# Altium schematic symbol library Analog_ADC.SchLib: 173 symbols (part 2 of 3)
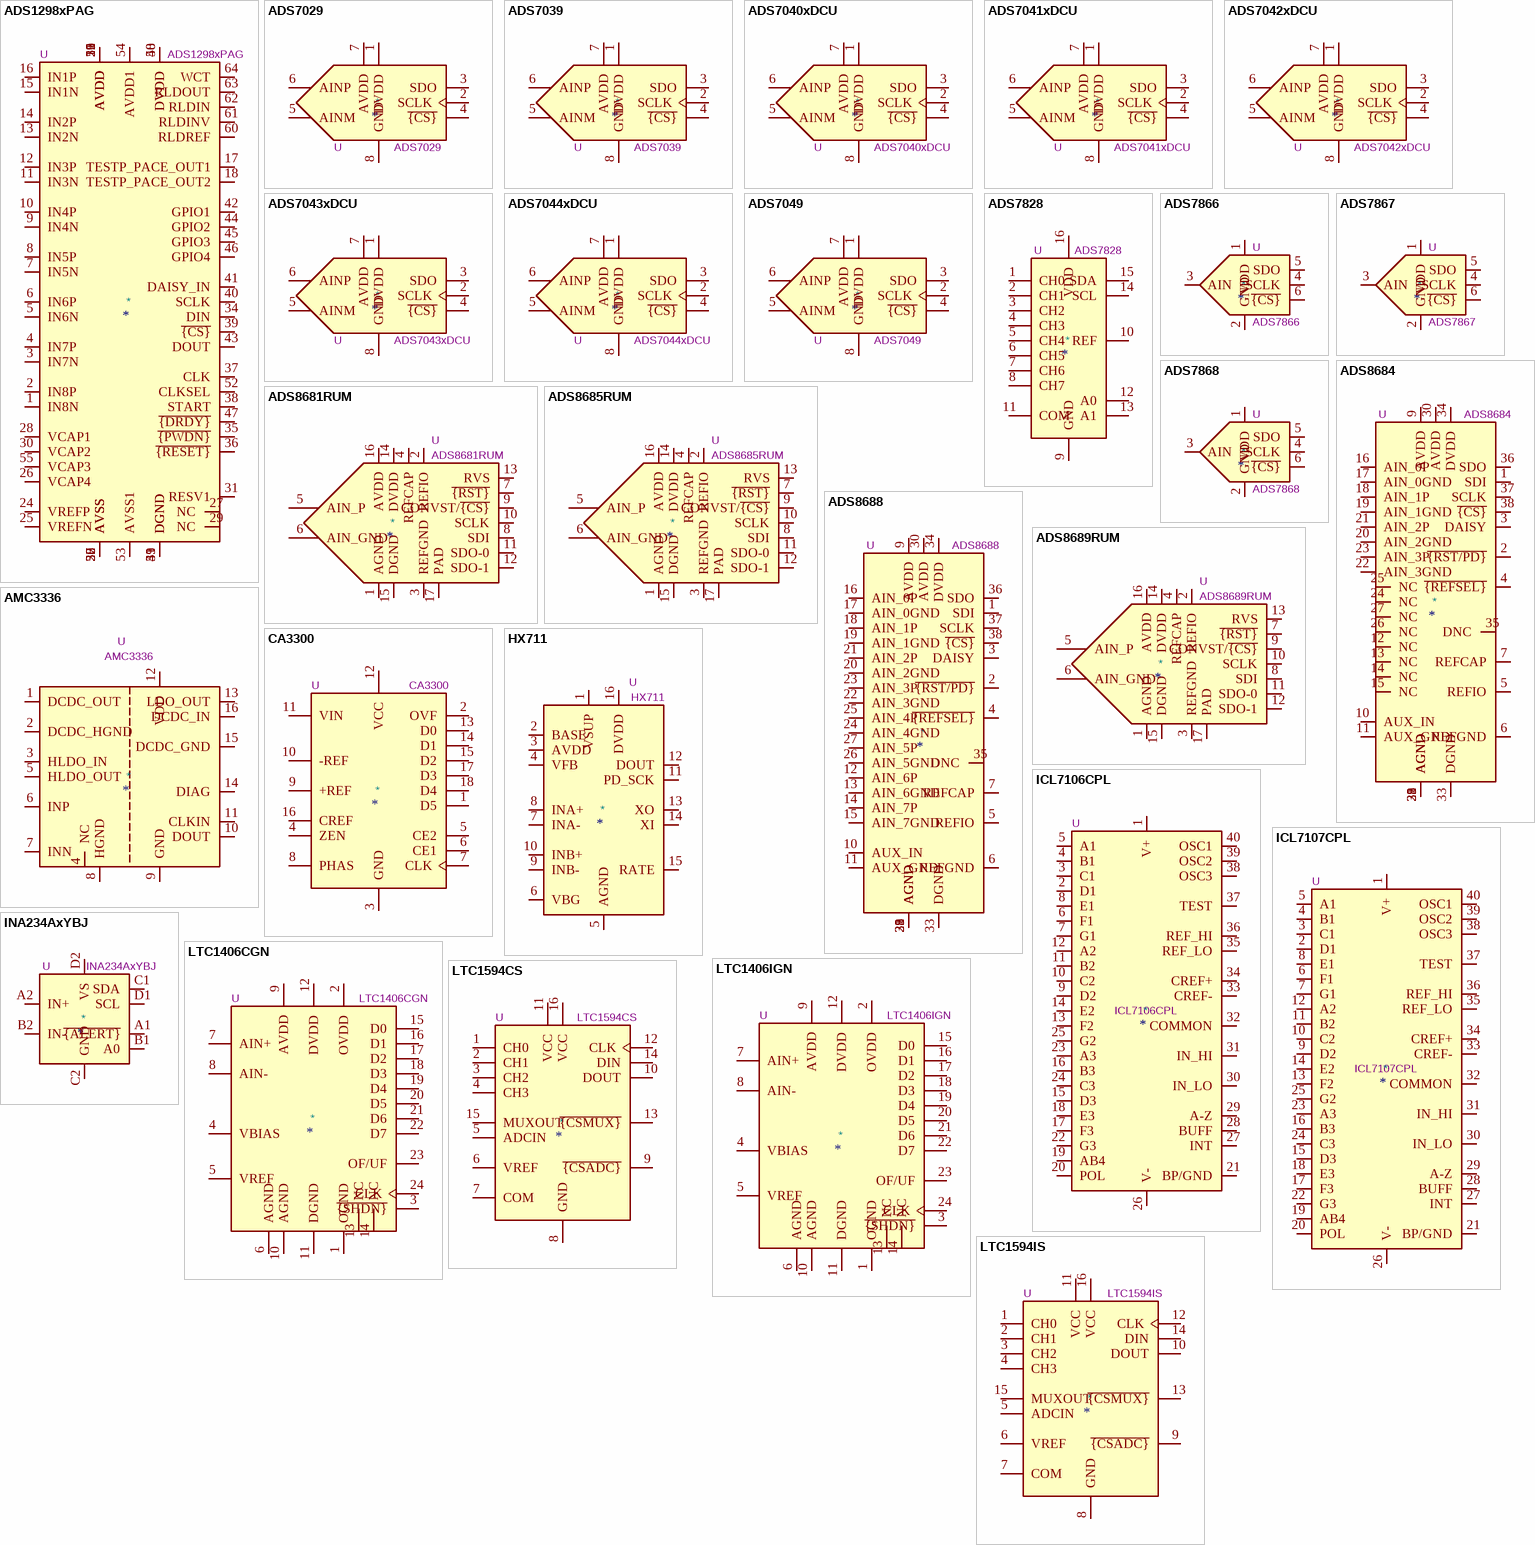
[diagram p8: symbols ADS1298xPAG to LTC1594IS]

## ADS8685RUM
designator *  value ADS8685RUM  Reference: U
16-Bit, High-Speed, Single-Supply, SAR ADC Data Acquisition System with Programmable, Bipolar Input Ranges 500KSPS, QFN-16; ki_keywords: ADC SPI analog digital; ki_fp_filters: QFN*1EP*4x4mm*P0.65mm*EP2.7x2.7mm*; Footprint: Package_DFN_QFN:QFN-16-1EP_4x4mm_P0.65mm_EP2.7x2.7mm; Datasheet: http://www.ti.com/lit/ds/symlink/ads8681.pdf; Description_: 16-Bit, High-Speed, Single-Supply, SAR ADC Data Acquisition System with Programmable, Bipolar Input Ranges 500KSPS, QFN-16
pins: 1 AGND, 2 REFIO, 3 REFGND, 4 REFCAP, 5 AIN_P, 6 AIN_GND, 7 ~{{RST}}, 8 SDI, 9 CONVST/~{{CS}}, 10 SCLK, 11 SDO-0, 12 SDO-1, 13 RVS, 14 DVDD, 15 DGND, 16 AVDD, 17 PAD

## ADS8688
designator *  value ADS8688  Reference: U
16-Bit, 500-kSPS, 8-Channels, Single-Supply, SAR ADC with Bipolar Input Range, TSSOP-38; ki_keywords: adc analog digital spi bipolar input; ki_fp_filters: TSSOP*4.4x9.7mm*P0.5mm*; Footprint: Package_SO:TSSOP-38_4.4x9.7mm_P0.5mm; Datasheet: http://www.ti.com/lit/ds/symlink/ads8688.pdf; Description_: 16-Bit, 500-kSPS, 8-Channels, Single-Supply, SAR ADC with Bipolar Input Range, TSSOP-38
pins: 1 SDI, 2 ~{{RST/PD}}, 3 DAISY, 4 ~{{REFSEL}}, 5 REFIO, 6 REFGND, 7 REFCAP, 8 AGND, 9 AVDD, 10 AUX_IN, 11 AUX_GND, 12 AIN_6P, 13 AIN_6GND, 14 AIN_7P, 15 AIN_7GND, 16 AIN_0P, 17 AIN_0GND, 18 AIN_1P, 19 AIN_1GND, 20 AIN_2GND, 21 AIN_2P, 22 AIN_3GND, 23 AIN_3P, 24 AIN_4GND, 25 AIN_4P, 26 AIN_5GND, 27 AIN_5P, 28 AGND, 29 AGND, 30 AVDD, 31 AGND, 32 AGND, 33 DGND, 34 DVDD, 35 DNC, 36 SDO, 37 SCLK, 38 ~{{CS}}

## ADS8689RUM
designator *  value ADS8689RUM  Reference: U
16-Bit, High-Speed, Single-Supply, SAR ADC Data Acquisition System with Programmable, Bipolar Input Ranges, 100KSPS, QFN-16; ki_keywords: ADC SPI analog digital; ki_fp_filters: QFN*1EP*4x4mm*P0.65mm*EP2.7x2.7mm*; Footprint: Package_DFN_QFN:QFN-16-1EP_4x4mm_P0.65mm_EP2.7x2.7mm; Datasheet: http://www.ti.com/lit/ds/symlink/ads8681.pdf; Description_: 16-Bit, High-Speed, Single-Supply, SAR ADC Data Acquisition System with Programmable, Bipolar Input Ranges, 100KSPS, QFN-16
pins: 1 AGND, 2 REFIO, 3 REFGND, 4 REFCAP, 5 AIN_P, 6 AIN_GND, 7 ~{{RST}}, 8 SDI, 9 CONVST/~{{CS}}, 10 SCLK, 11 SDO-0, 12 SDO-1, 13 RVS, 14 DVDD, 15 DGND, 16 AVDD, 17 PAD

## AMC3336
designator *  value AMC3336  Reference: U
Reinforced Isolated Delta-Sigma Modulator With Integrated DC/DC Converter, SOIC-16W; ki_keywords: isolated adc delta sigma integrated power supply; ki_fp_filters: SOIC*7.5x10.3mm*P1.27mm*; Footprint: Package_SO:SOIC-16W_7.5x10.3mm_P1.27mm; Datasheet: https://www.ti.com/lit/ds/symlink/amc3336.pdf; Description_: Reinforced Isolated Delta-Sigma Modulator With Integrated DC/DC Converter, SOIC-16W
pins: 1 DCDC_OUT, 2 DCDC_HGND, 3 HLDO_IN, 4 NC, 5 HLDO_OUT, 6 INP, 7 INN, 8 HGND, 9 GND, 10 DOUT, 11 CLKIN, 12 VDD, 13 LDO_OUT, 14 DIAG, 15 DCDC_GND, 16 DCDC_IN

## CA3300
designator *  value CA3300  Reference: U
Convertisseur A->D 6 bits rapide; ki_keywords: ADC CAN; Description_: Convertisseur A->D 6 bits rapide
pins: 1 D5, 2 OVF, 3 GND, 4 ZEN, 5 CE2, 6 CE1, 7 CLK, 8 PHAS, 9 +REF, 10 -REF, 11 VIN, 12 VCC, 13 D0, 14 D1, 15 D2, 16 CREF, 17 D3, 18 D4

## HX711
designator *  value HX711  Reference: U
24-Bit Analog-to-Digital Converter (ADC) for Weight Scales; ki_keywords: adc load cell 24-bits analog weight; ki_fp_filters: SOP*3.9x9.9mm*P1.27mm*; Footprint: Package_SO:SOP-16_3.9x9.9mm_P1.27mm; Datasheet: https://web.archive.org/web/20220615044707/https://akizukidenshi.com/download/ds/avia/hx711.pdf; Description_: 24-Bit Analog-to-Digital Converter (ADC) for Weight Scales
pins: 1 VSUP, 2 BASE, 3 AVDD, 4 VFB, 5 AGND, 6 VBG, 7 INA-, 8 INA+, 9 INB-, 10 INB+, 11 PD_SCK, 12 DOUT, 13 XO, 14 XI, 15 RATE, 16 DVDD

## ICL7106CPL
designator *  value ICL7106CPL  Reference: U
3 1/2 Digit, LCD Display, A/D Converter, DIP-40; ki_keywords: LCD ADC; ki_fp_filters: DIP*W15.24*; Footprint: Package_DIP:DIP-40_W15.24mm; Datasheet: https://www.renesas.com/eu/en/www/doc/datasheet/icl7106-07-07s.pdf; Description_: 3 1/2 Digit, LCD Display, A/D Converter, DIP-40
pins: 1 V+, 2 D1, 3 C1, 4 B1, 5 A1, 6 F1, 7 G1, 8 E1, 9 D2, 10 C2, 11 B2, 12 A2, 13 F2, 14 E2, 15 D3, 16 B3, 17 F3, 18 E3, 19 AB4, 20 POL, 21 BP/GND, 22 G3, 23 A3, 24 C3, 25 G2, 26 V-, 27 INT, 28 BUFF, 29 A-Z, 30 IN_LO, 31 IN_HI, 32 COMMON, 33 CREF-, 34 CREF+, 35 REF_LO, 36 REF_HI, 37 TEST, 38 OSC3, 39 OSC2, 40 OSC1

## ICL7107CPL
designator *  value ICL7107CPL  Reference: U
3 1/2 Digit, LED Display, A/D Converter, DIP-40; ki_keywords: LED ADC; ki_fp_filters: DIP*W15.24*; Footprint: Package_DIP:DIP-40_W15.24mm; Datasheet: https://www.renesas.com/eu/en/www/doc/datasheet/icl7106-07-07s.pdf; Description_: 3 1/2 Digit, LED Display, A/D Converter, DIP-40
pins: 1 V+, 2 D1, 3 C1, 4 B1, 5 A1, 6 F1, 7 G1, 8 E1, 9 D2, 10 C2, 11 B2, 12 A2, 13 F2, 14 E2, 15 D3, 16 B3, 17 F3, 18 E3, 19 AB4, 20 POL, 21 BP/GND, 22 G3, 23 A3, 24 C3, 25 G2, 26 V-, 27 INT, 28 BUFF, 29 A-Z, 30 IN_LO, 31 IN_HI, 32 COMMON, 33 CREF-, 34 CREF+, 35 REF_LO, 36 REF_HI, 37 TEST, 38 OSC3, 39 OSC2, 40 OSC1

## INA234AxYBJ
designator *  value INA234AxYBJ  Reference: U
Bidirectional Current/Voltage/Power Monitor (0-28V) With I2C Interface, DSBGA-8; ki_keywords: ADC I2C 12-Bit Current Voltage Power Shunt; ki_fp_filters: *DSBGA*0.705x1.468mm*P0.4mm*; Footprint: Package_BGA:Texas_DSBGA-8_0.705x1.468mm_Layout2x4_P0.4mm; Datasheet: https://www.ti.com/lit/ds/symlink/ina234.pdf; Description_: Bidirectional Current/Voltage/Power Monitor (0-28V) With I2C Interface, DSBGA-8
pins: A1 ~{{ALERT}}, A2 IN+, B1 A0, B2 IN-, C1 SDA, C2 GND, D1 SCL, D2 VS

## LTC1406CGN
designator *  value LTC1406CGN  Reference: U
ADC 8bit Low Power 20Msps, SSOP-24; ki_keywords: Low Power ADC 8bit 20Msps; ki_fp_filters: SSOP*; Datasheet: https://www.analog.com/media/en/technical-documentation/data-sheets/1406f.pdf; Description_: ADC 8bit Low Power 20Msps, SSOP-24
pins: 1 OGND, 2 OVDD, 3 ~{{SHDN}}, 4 VBIAS, 5 VREF, 6 AGND, 7 AIN+, 8 AIN-, 9 AVDD, 10 AGND, 11 DGND, 12 DVDD, 13 NC, 14 NC, 15 D0, 16 D1, 17 D2, 18 D3, 19 D4, 20 D5, 21 D6, 22 D7, 23 OF/UF, 24 CLK

## LTC1406IGN
designator *  value LTC1406IGN  Reference: U
ADC 8bit Low Power 20Msps, SSOP-24; ki_keywords: Low Power ADC 8bit 20Msps; ki_fp_filters: SSOP*; Datasheet: https://www.analog.com/media/en/technical-documentation/data-sheets/1406f.pdf; Description_: ADC 8bit Low Power 20Msps, SSOP-24
pins: 1 OGND, 2 OVDD, 3 ~{{SHDN}}, 4 VBIAS, 5 VREF, 6 AGND, 7 AIN+, 8 AIN-, 9 AVDD, 10 AGND, 11 DGND, 12 DVDD, 13 NC, 14 NC, 15 D0, 16 D1, 17 D2, 18 D3, 19 D4, 20 D5, 21 D6, 22 D7, 23 OF/UF, 24 CLK

## LTC1594CS
designator *  value LTC1594CS  Reference: U
Micropower 12-bit 4 Channel ADC, Serial IO, SOIC-16; ki_keywords: 12bit ADC 4 Channel; ki_fp_filters: SO*; Datasheet: https://www.analog.com/media/en/technical-documentation/data-sheets/15948fb.pdf; Description_: Micropower 12-bit 4 Channel ADC, Serial IO, SOIC-16
pins: 1 CH0, 2 CH1, 3 CH2, 4 CH3, 5 ADCIN, 6 VREF, 7 COM, 8 GND, 9 ~{{CSADC}}, 10 DOUT, 11 VCC, 12 CLK, 13 ~{{CSMUX}}, 14 DIN, 15 MUXOUT, 16 VCC

## LTC1594IS
designator *  value LTC1594IS  Reference: U
Micropower 12-bit 4 Channel ADC, Serial IO, SO-16; ki_keywords: 12bit ADC 4 Channel; ki_fp_filters: SO*; Datasheet: https://www.analog.com/media/en/technical-documentation/data-sheets/15948fb.pdf; Description_: Micropower 12-bit 4 Channel ADC, Serial IO, SO-16
pins: 1 CH0, 2 CH1, 3 CH2, 4 CH3, 5 ADCIN, 6 VREF, 7 COM, 8 GND, 9 ~{{CSADC}}, 10 DOUT, 11 VCC, 12 CLK, 13 ~{{CSMUX}}, 14 DIN, 15 MUXOUT, 16 VCC

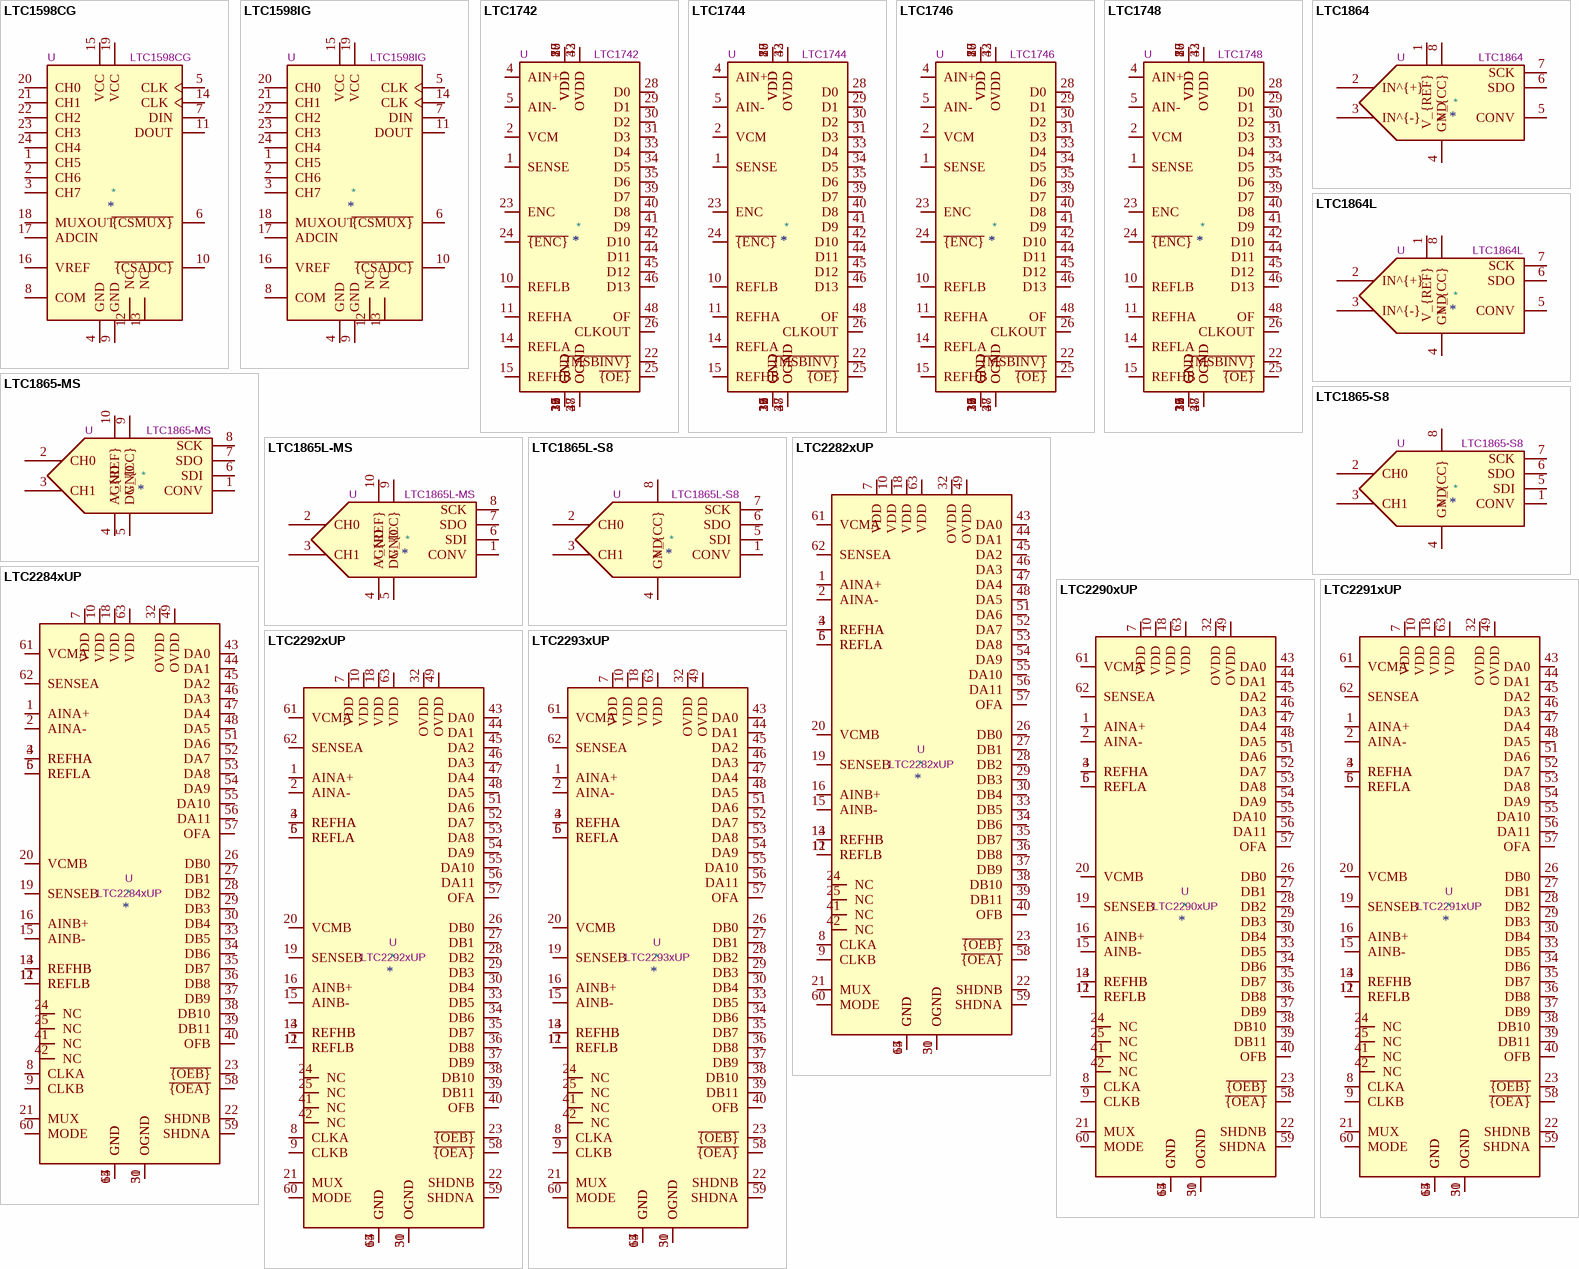
[diagram p4: symbols LTC1598CG to LTC2293xUP]

## LTC1598CG
designator *  value LTC1598CG  Reference: U
Micropower 12-bit 8 Channel ADC, Serial IO, SSOP-24; ki_keywords: 12bit ADC 4 Channel; ki_fp_filters: SSOP*; Datasheet: https://www.analog.com/media/en/technical-documentation/data-sheets/15948fb.pdf; Description_: Micropower 12-bit 8 Channel ADC, Serial IO, SSOP-24
pins: 1 CH5, 2 CH6, 3 CH7, 4 GND, 5 CLK, 6 ~{{CSMUX}}, 7 DIN, 8 COM, 9 GND, 10 ~{{CSADC}}, 11 DOUT, 12 NC, 13 NC, 14 CLK, 15 VCC, 16 VREF, 17 ADCIN, 18 MUXOUT, 19 VCC, 20 CH0, 21 CH1, 22 CH2, 23 CH3, 24 CH4

## LTC1598IG
designator *  value LTC1598IG  Reference: U
Micropower 12-bit 8 Channel ADC, Serial IO, SSOP-24; ki_keywords: 12bit ADC 4 Channel; ki_fp_filters: SSOP*; Datasheet: https://www.analog.com/media/en/technical-documentation/data-sheets/15948fb.pdf; Description_: Micropower 12-bit 8 Channel ADC, Serial IO, SSOP-24
pins: 1 CH5, 2 CH6, 3 CH7, 4 GND, 5 CLK, 6 ~{{CSMUX}}, 7 DIN, 8 COM, 9 GND, 10 ~{{CSADC}}, 11 DOUT, 12 NC, 13 NC, 14 CLK, 15 VCC, 16 VREF, 17 ADCIN, 18 MUXOUT, 19 VCC, 20 CH0, 21 CH1, 22 CH2, 23 CH3, 24 CH4

## LTC1742
designator *  value LTC1742  Reference: U
14-Bit, 65Msps, Low Noise, ADC, TSSOP-48; ki_keywords: ADC analog digital converter pipeline; ki_fp_filters: TSSOP*6.1x12.5mm*P0.5mm*; Footprint: Package_SO:TSSOP-48_6.1x12.5mm_P0.5mm; Datasheet: https://www.analog.com/media/en/technical-documentation/data-sheets/1742f.pdf; Description_: 14-Bit, 65Msps, Low Noise, ADC, TSSOP-48
pins: 1 SENSE, 2 VCM, 3 GND, 4 AIN+, 5 AIN-, 6 GND, 7 VDD, 8 VDD, 9 GND, 10 REFLB, 11 REFHA, 12 GND, 13 GND, 14 REFLA, 15 REFHB, 16 GND, 17 VDD, 18 VDD, 19 GND, 20 VDD, 21 GND, 22 ~{{MSBINV}}, 23 ENC, 24 ~{{ENC}}, 25 ~{{OE}}, 26 CLKOUT, 27 OGND, 28 D0, 29 D1, 30 D2, 31 D3, 32 OVDD, 33 D4, 34 D5, 35 D6, 36 GND, 37 GND, 38 OGND, 39 D7, 40 D8, 41 D9, 42 D10, 43 OVDD, 44 D11, 45 D12, 46 D13, 47 OGND, 48 OF

## LTC1744
designator *  value LTC1744  Reference: U
14-Bit, 50Msps, ADC, TSSOP-48; ki_keywords: ADC analog digital converter pipeline; ki_fp_filters: TSSOP*6.1x12.5mm*P0.5mm*; Footprint: Package_SO:TSSOP-48_6.1x12.5mm_P0.5mm; Datasheet: https://www.analog.com/media/en/technical-documentation/data-sheets/1744f.pdf; Description_: 14-Bit, 50Msps, ADC, TSSOP-48
pins: 1 SENSE, 2 VCM, 3 GND, 4 AIN+, 5 AIN-, 6 GND, 7 VDD, 8 VDD, 9 GND, 10 REFLB, 11 REFHA, 12 GND, 13 GND, 14 REFLA, 15 REFHB, 16 GND, 17 VDD, 18 VDD, 19 GND, 20 VDD, 21 GND, 22 ~{{MSBINV}}, 23 ENC, 24 ~{{ENC}}, 25 ~{{OE}}, 26 CLKOUT, 27 OGND, 28 D0, 29 D1, 30 D2, 31 D3, 32 OVDD, 33 D4, 34 D5, 35 D6, 36 GND, 37 GND, 38 OGND, 39 D7, 40 D8, 41 D9, 42 D10, 43 OVDD, 44 D11, 45 D12, 46 D13, 47 OGND, 48 OF

## LTC1746
designator *  value LTC1746  Reference: U
Low Power, 14-Bit, 25Msps, ADC, TSSOP-48; ki_keywords: ADC analog digital converter pipeline; ki_fp_filters: TSSOP*6.1x12.5mm*P0.5mm*; Footprint: Package_SO:TSSOP-48_6.1x12.5mm_P0.5mm; Datasheet: https://www.analog.com/media/en/technical-documentation/data-sheets/1746f.pdf; Description_: Low Power, 14-Bit, 25Msps, ADC, TSSOP-48
pins: 1 SENSE, 2 VCM, 3 GND, 4 AIN+, 5 AIN-, 6 GND, 7 VDD, 8 VDD, 9 GND, 10 REFLB, 11 REFHA, 12 GND, 13 GND, 14 REFLA, 15 REFHB, 16 GND, 17 VDD, 18 VDD, 19 GND, 20 VDD, 21 GND, 22 ~{{MSBINV}}, 23 ENC, 24 ~{{ENC}}, 25 ~{{OE}}, 26 CLKOUT, 27 OGND, 28 D0, 29 D1, 30 D2, 31 D3, 32 OVDD, 33 D4, 34 D5, 35 D6, 36 GND, 37 GND, 38 OGND, 39 D7, 40 D8, 41 D9, 42 D10, 43 OVDD, 44 D11, 45 D12, 46 D13, 47 OGND, 48 OF

## LTC1748
designator *  value LTC1748  Reference: U
14-Bit, 80Msps, Low Noise, ADC, TSSOP-48; ki_keywords: ADC analog digital converter pipeline; ki_fp_filters: TSSOP*6.1x12.5mm*P0.5mm*; Footprint: Package_SO:TSSOP-48_6.1x12.5mm_P0.5mm; Datasheet: https://www.analog.com/media/en/technical-documentation/data-sheets/1748fa.pdf; Description_: 14-Bit, 80Msps, Low Noise, ADC, TSSOP-48
pins: 1 SENSE, 2 VCM, 3 GND, 4 AIN+, 5 AIN-, 6 GND, 7 VDD, 8 VDD, 9 GND, 10 REFLB, 11 REFHA, 12 GND, 13 GND, 14 REFLA, 15 REFHB, 16 GND, 17 VDD, 18 VDD, 19 GND, 20 VDD, 21 GND, 22 ~{{MSBINV}}, 23 ENC, 24 ~{{ENC}}, 25 ~{{OE}}, 26 CLKOUT, 27 OGND, 28 D0, 29 D1, 30 D2, 31 D3, 32 OVDD, 33 D4, 34 D5, 35 D6, 36 GND, 37 GND, 38 OGND, 39 D7, 40 D8, 41 D9, 42 D10, 43 OVDD, 44 D11, 45 D12, 46 D13, 47 OGND, 48 OF

## LTC1864
designator *  value LTC1864  Reference: U
Single channel 16-bit SAR Analog to Digital Converter, 5V supply, differential input, 150ksps, SPI interface; ki_keywords: adc spi 1ch; ki_fp_filters: MSOP*3x3mm*P0.65mm* SOIC*3.9x4.9mm*P1.27mm*; Datasheet: https://www.analog.com/media/en/technical-documentation/data-sheets/18645fb.pdf; Description_: Single channel 16-bit SAR Analog to Digital Converter, 5V supply, differential input, 150ksps, SPI interface
pins: 1 V_{REF}, 2 IN^{+}, 3 IN^{-}, 4 GND, 5 CONV, 6 SDO, 7 SCK, 8 V_{CC}

## LTC1864L
designator *  value LTC1864L  Reference: U
Single channel 16-bit SAR Analog to Digital Converter, 3V supply, differential input, 150ksps, SPI interface; ki_keywords: adc spi 1ch; ki_fp_filters: MSOP*3x3mm*P0.65mm* SOIC*3.9x4.9mm*P1.27mm*; Datasheet: https://www.analog.com/media/en/technical-documentation/data-sheets/18645lfs.pdf; Description_: Single channel 16-bit SAR Analog to Digital Converter, 3V supply, differential input, 150ksps, SPI interface
pins: 1 V_{REF}, 2 IN^{+}, 3 IN^{-}, 4 GND, 5 CONV, 6 SDO, 7 SCK, 8 V_{CC}

## LTC1865-MS
designator *  value LTC1865-MS  Reference: U
Dual channel 16-bit SAR Analog to Digital Converter, 5V supply, 150ksps, SPI interface; ki_keywords: adc 2ch; ki_fp_filters: MSOP*3x3mm*P0.5mm*; Footprint: Package_SO:MSOP-10_3x3mm_P0.5mm; Datasheet: https://www.analog.com/media/en/technical-documentation/data-sheets/18645fb.pdf; Description_: Dual channel 16-bit SAR Analog to Digital Converter, 5V supply, 150ksps, SPI interface
pins: 1 CONV, 2 CH0, 3 CH1, 4 AGND, 5 DGND, 6 SDI, 7 SDO, 8 SCK, 9 V_{CC}, 10 V_{REF}

## LTC1865-S8
designator *  value LTC1865-S8  Reference: U
Dual channel 16-bit SAR Analog to Digital Converter, 5V supply, 150ksps, SPI interface; ki_keywords: adc 2ch; ki_fp_filters: SOIC*3.9x4.9mm*P1.27mm*; Footprint: Package_SO:SOIC-8_3.9x4.9mm_P1.27mm; Datasheet: https://www.analog.com/media/en/technical-documentation/data-sheets/18645fb.pdf; Description_: Dual channel 16-bit SAR Analog to Digital Converter, 5V supply, 150ksps, SPI interface
pins: 1 CONV, 2 CH0, 3 CH1, 4 GND, 5 SDI, 6 SDO, 7 SCK, 8 V_{CC}

## LTC1865L-MS
designator *  value LTC1865L-MS  Reference: U
Dual channel 16-bit SAR Analog to Digital Converter, 3V supply, 150ksps, SPI interface; ki_keywords: adc 2ch; ki_fp_filters: MSOP*3x3mm*P0.5mm*; Footprint: Package_SO:MSOP-10_3x3mm_P0.5mm; Datasheet: https://www.analog.com/media/en/technical-documentation/data-sheets/18645lfs.pdf; Description_: Dual channel 16-bit SAR Analog to Digital Converter, 3V supply, 150ksps, SPI interface
pins: 1 CONV, 2 CH0, 3 CH1, 4 AGND, 5 DGND, 6 SDI, 7 SDO, 8 SCK, 9 V_{CC}, 10 V_{REF}

## LTC1865L-S8
designator *  value LTC1865L-S8  Reference: U
Dual channel 16-bit SAR Analog to Digital Converter, 3V supply, 150ksps, SPI interface; ki_keywords: adc 2ch; ki_fp_filters: SOIC*3.9x4.9mm*P1.27mm*; Footprint: Package_SO:SOIC-8_3.9x4.9mm_P1.27mm; Datasheet: https://www.analog.com/media/en/technical-documentation/data-sheets/18645lfs.pdf; Description_: Dual channel 16-bit SAR Analog to Digital Converter, 3V supply, 150ksps, SPI interface
pins: 1 CONV, 2 CH0, 3 CH1, 4 GND, 5 SDI, 6 SDO, 7 SCK, 8 V_{CC}

## LTC2282xUP
designator *  value LTC2282xUP  Reference: U
Dual-Channel, 12-Bit Low Power ADC, 105Msps, QFN-64; ki_fp_filters: QFN*1EP*9x9mm*P0.5mm*; Footprint: Package_DFN_QFN:QFN-64-1EP_9x9mm_P0.5mm_EP7.15x7.15mm; Datasheet: https://www.analog.com/media/en/technical-documentation/data-sheets/2282fb.pdf; Description_: Dual-Channel, 12-Bit Low Power ADC, 105Msps, QFN-64; ki_keywords: ADC
pins: 1 AINA+, 2 AINA-, 3 REFHA, 4 REFHA, 5 REFLA, 6 REFLA, 7 VDD, 8 CLKA, 9 CLKB, 10 VDD, 11 REFLB, 12 REFLB, 13 REFHB, 14 REFHB, 15 AINB-, 16 AINB+, 17 GND, 18 VDD, 19 SENSEB, 20 VCMB, 21 MUX, 22 SHDNB, 23 ~{{OEB}}, 24 NC, 25 NC, 26 DB0, 27 DB1, 28 DB2, 29 DB3, 30 DB4, 31 OGND, 32 OVDD, 33 DB5, 34 DB6, 35 DB7, 36 DB8, 37 DB9, 38 DB10, 39 DB11, 40 OFB, 41 NC, 42 NC, 43 DA0, 44 DA1, 45 DA2, 46 DA3, 47 DA4, 48 DA5, 49 OVDD, 50 OGND, 51 DA6, 52 DA7, 53 DA8, 54 DA9, 55 DA10, 56 DA11, 57 OFA, 58 ~{{OEA}}, 59 SHDNA, 60 MODE, 61 VCMA, 62 SENSEA, 63 VDD, 64 GND, 65 GND

## LTC2284xUP
designator *  value LTC2284xUP  Reference: U
Dual-Channel, 14-Bit Low Power ADC, 105Msps, QFN-64; ki_fp_filters: QFN*1EP*9x9mm*P0.5mm*; Footprint: Package_DFN_QFN:QFN-64-1EP_9x9mm_P0.5mm_EP7.15x7.15mm; Datasheet: https://www.analog.com/media/en/technical-documentation/data-sheets/2284fa.pdf; Description_: Dual-Channel, 14-Bit Low Power ADC, 105Msps, QFN-64; ki_keywords: ADC
pins: 1 AINA+, 2 AINA-, 3 REFHA, 4 REFHA, 5 REFLA, 6 REFLA, 7 VDD, 8 CLKA, 9 CLKB, 10 VDD, 11 REFLB, 12 REFLB, 13 REFHB, 14 REFHB, 15 AINB-, 16 AINB+, 17 GND, 18 VDD, 19 SENSEB, 20 VCMB, 21 MUX, 22 SHDNB, 23 ~{{OEB}}, 24 NC, 25 NC, 26 DB0, 27 DB1, 28 DB2, 29 DB3, 30 DB4, 31 OGND, 32 OVDD, 33 DB5, 34 DB6, 35 DB7, 36 DB8, 37 DB9, 38 DB10, 39 DB11, 40 OFB, 41 NC, 42 NC, 43 DA0, 44 DA1, 45 DA2, 46 DA3, 47 DA4, 48 DA5, 49 OVDD, 50 OGND, 51 DA6, 52 DA7, 53 DA8, 54 DA9, 55 DA10, 56 DA11, 57 OFA, 58 ~{{OEA}}, 59 SHDNA, 60 MODE, 61 VCMA, 62 SENSEA, 63 VDD, 64 GND, 65 GND

## LTC2290xUP
designator *  value LTC2290xUP  Reference: U
Dual-Channel, 12-Bit Low Power ADC, 10Msps, QFN-64; ki_fp_filters: QFN*1EP*9x9mm*P0.5mm*; Footprint: Package_DFN_QFN:QFN-64-1EP_9x9mm_P0.5mm_EP7.15x7.15mm; Datasheet: https://www.analog.com/media/en/technical-documentation/data-sheets/2290fa.pdf; Description_: Dual-Channel, 12-Bit Low Power ADC, 10Msps, QFN-64; ki_keywords: ADC
pins: 1 AINA+, 2 AINA-, 3 REFHA, 4 REFHA, 5 REFLA, 6 REFLA, 7 VDD, 8 CLKA, 9 CLKB, 10 VDD, 11 REFLB, 12 REFLB, 13 REFHB, 14 REFHB, 15 AINB-, 16 AINB+, 17 GND, 18 VDD, 19 SENSEB, 20 VCMB, 21 MUX, 22 SHDNB, 23 ~{{OEB}}, 24 NC, 25 NC, 26 DB0, 27 DB1, 28 DB2, 29 DB3, 30 DB4, 31 OGND, 32 OVDD, 33 DB5, 34 DB6, 35 DB7, 36 DB8, 37 DB9, 38 DB10, 39 DB11, 40 OFB, 41 NC, 42 NC, 43 DA0, 44 DA1, 45 DA2, 46 DA3, 47 DA4, 48 DA5, 49 OVDD, 50 OGND, 51 DA6, 52 DA7, 53 DA8, 54 DA9, 55 DA10, 56 DA11, 57 OFA, 58 ~{{OEA}}, 59 SHDNA, 60 MODE, 61 VCMA, 62 SENSEA, 63 VDD, 64 GND, 65 GND

## LTC2291xUP
designator *  value LTC2291xUP  Reference: U
Dual-Channel, 12-Bit Low Power ADC, 25Msps, QFN-64; ki_fp_filters: QFN*1EP*9x9mm*P0.5mm*; Footprint: Package_DFN_QFN:QFN-64-1EP_9x9mm_P0.5mm_EP7.15x7.15mm; Datasheet: https://www.analog.com/media/en/technical-documentation/data-sheets/229321fa.pdf; Description_: Dual-Channel, 12-Bit Low Power ADC, 25Msps, QFN-64; ki_keywords: ADC
pins: 1 AINA+, 2 AINA-, 3 REFHA, 4 REFHA, 5 REFLA, 6 REFLA, 7 VDD, 8 CLKA, 9 CLKB, 10 VDD, 11 REFLB, 12 REFLB, 13 REFHB, 14 REFHB, 15 AINB-, 16 AINB+, 17 GND, 18 VDD, 19 SENSEB, 20 VCMB, 21 MUX, 22 SHDNB, 23 ~{{OEB}}, 24 NC, 25 NC, 26 DB0, 27 DB1, 28 DB2, 29 DB3, 30 DB4, 31 OGND, 32 OVDD, 33 DB5, 34 DB6, 35 DB7, 36 DB8, 37 DB9, 38 DB10, 39 DB11, 40 OFB, 41 NC, 42 NC, 43 DA0, 44 DA1, 45 DA2, 46 DA3, 47 DA4, 48 DA5, 49 OVDD, 50 OGND, 51 DA6, 52 DA7, 53 DA8, 54 DA9, 55 DA10, 56 DA11, 57 OFA, 58 ~{{OEA}}, 59 SHDNA, 60 MODE, 61 VCMA, 62 SENSEA, 63 VDD, 64 GND, 65 GND

## LTC2292xUP
designator *  value LTC2292xUP  Reference: U
Dual-Channel, 12-Bit Low Power ADC, 40Msps, QFN-64; ki_fp_filters: QFN*1EP*9x9mm*P0.5mm*; Footprint: Package_DFN_QFN:QFN-64-1EP_9x9mm_P0.5mm_EP7.15x7.15mm; Datasheet: https://www.analog.com/media/en/technical-documentation/data-sheets/229321fa.pdf; Description_: Dual-Channel, 12-Bit Low Power ADC, 40Msps, QFN-64; ki_keywords: ADC
pins: 1 AINA+, 2 AINA-, 3 REFHA, 4 REFHA, 5 REFLA, 6 REFLA, 7 VDD, 8 CLKA, 9 CLKB, 10 VDD, 11 REFLB, 12 REFLB, 13 REFHB, 14 REFHB, 15 AINB-, 16 AINB+, 17 GND, 18 VDD, 19 SENSEB, 20 VCMB, 21 MUX, 22 SHDNB, 23 ~{{OEB}}, 24 NC, 25 NC, 26 DB0, 27 DB1, 28 DB2, 29 DB3, 30 DB4, 31 OGND, 32 OVDD, 33 DB5, 34 DB6, 35 DB7, 36 DB8, 37 DB9, 38 DB10, 39 DB11, 40 OFB, 41 NC, 42 NC, 43 DA0, 44 DA1, 45 DA2, 46 DA3, 47 DA4, 48 DA5, 49 OVDD, 50 OGND, 51 DA6, 52 DA7, 53 DA8, 54 DA9, 55 DA10, 56 DA11, 57 OFA, 58 ~{{OEA}}, 59 SHDNA, 60 MODE, 61 VCMA, 62 SENSEA, 63 VDD, 64 GND, 65 GND

## LTC2293xUP
designator *  value LTC2293xUP  Reference: U
Dual-Channel, 12-Bit Low Power ADC, 65Msps, QFN-64; ki_fp_filters: QFN*1EP*9x9mm*P0.5mm*; Footprint: Package_DFN_QFN:QFN-64-1EP_9x9mm_P0.5mm_EP7.15x7.15mm; Datasheet: https://www.analog.com/media/en/technical-documentation/data-sheets/229321fa.pdf; Description_: Dual-Channel, 12-Bit Low Power ADC, 65Msps, QFN-64; ki_keywords: ADC
pins: 1 AINA+, 2 AINA-, 3 REFHA, 4 REFHA, 5 REFLA, 6 REFLA, 7 VDD, 8 CLKA, 9 CLKB, 10 VDD, 11 REFLB, 12 REFLB, 13 REFHB, 14 REFHB, 15 AINB-, 16 AINB+, 17 GND, 18 VDD, 19 SENSEB, 20 VCMB, 21 MUX, 22 SHDNB, 23 ~{{OEB}}, 24 NC, 25 NC, 26 DB0, 27 DB1, 28 DB2, 29 DB3, 30 DB4, 31 OGND, 32 OVDD, 33 DB5, 34 DB6, 35 DB7, 36 DB8, 37 DB9, 38 DB10, 39 DB11, 40 OFB, 41 NC, 42 NC, 43 DA0, 44 DA1, 45 DA2, 46 DA3, 47 DA4, 48 DA5, 49 OVDD, 50 OGND, 51 DA6, 52 DA7, 53 DA8, 54 DA9, 55 DA10, 56 DA11, 57 OFA, 58 ~{{OEA}}, 59 SHDNA, 60 MODE, 61 VCMA, 62 SENSEA, 63 VDD, 64 GND, 65 GND

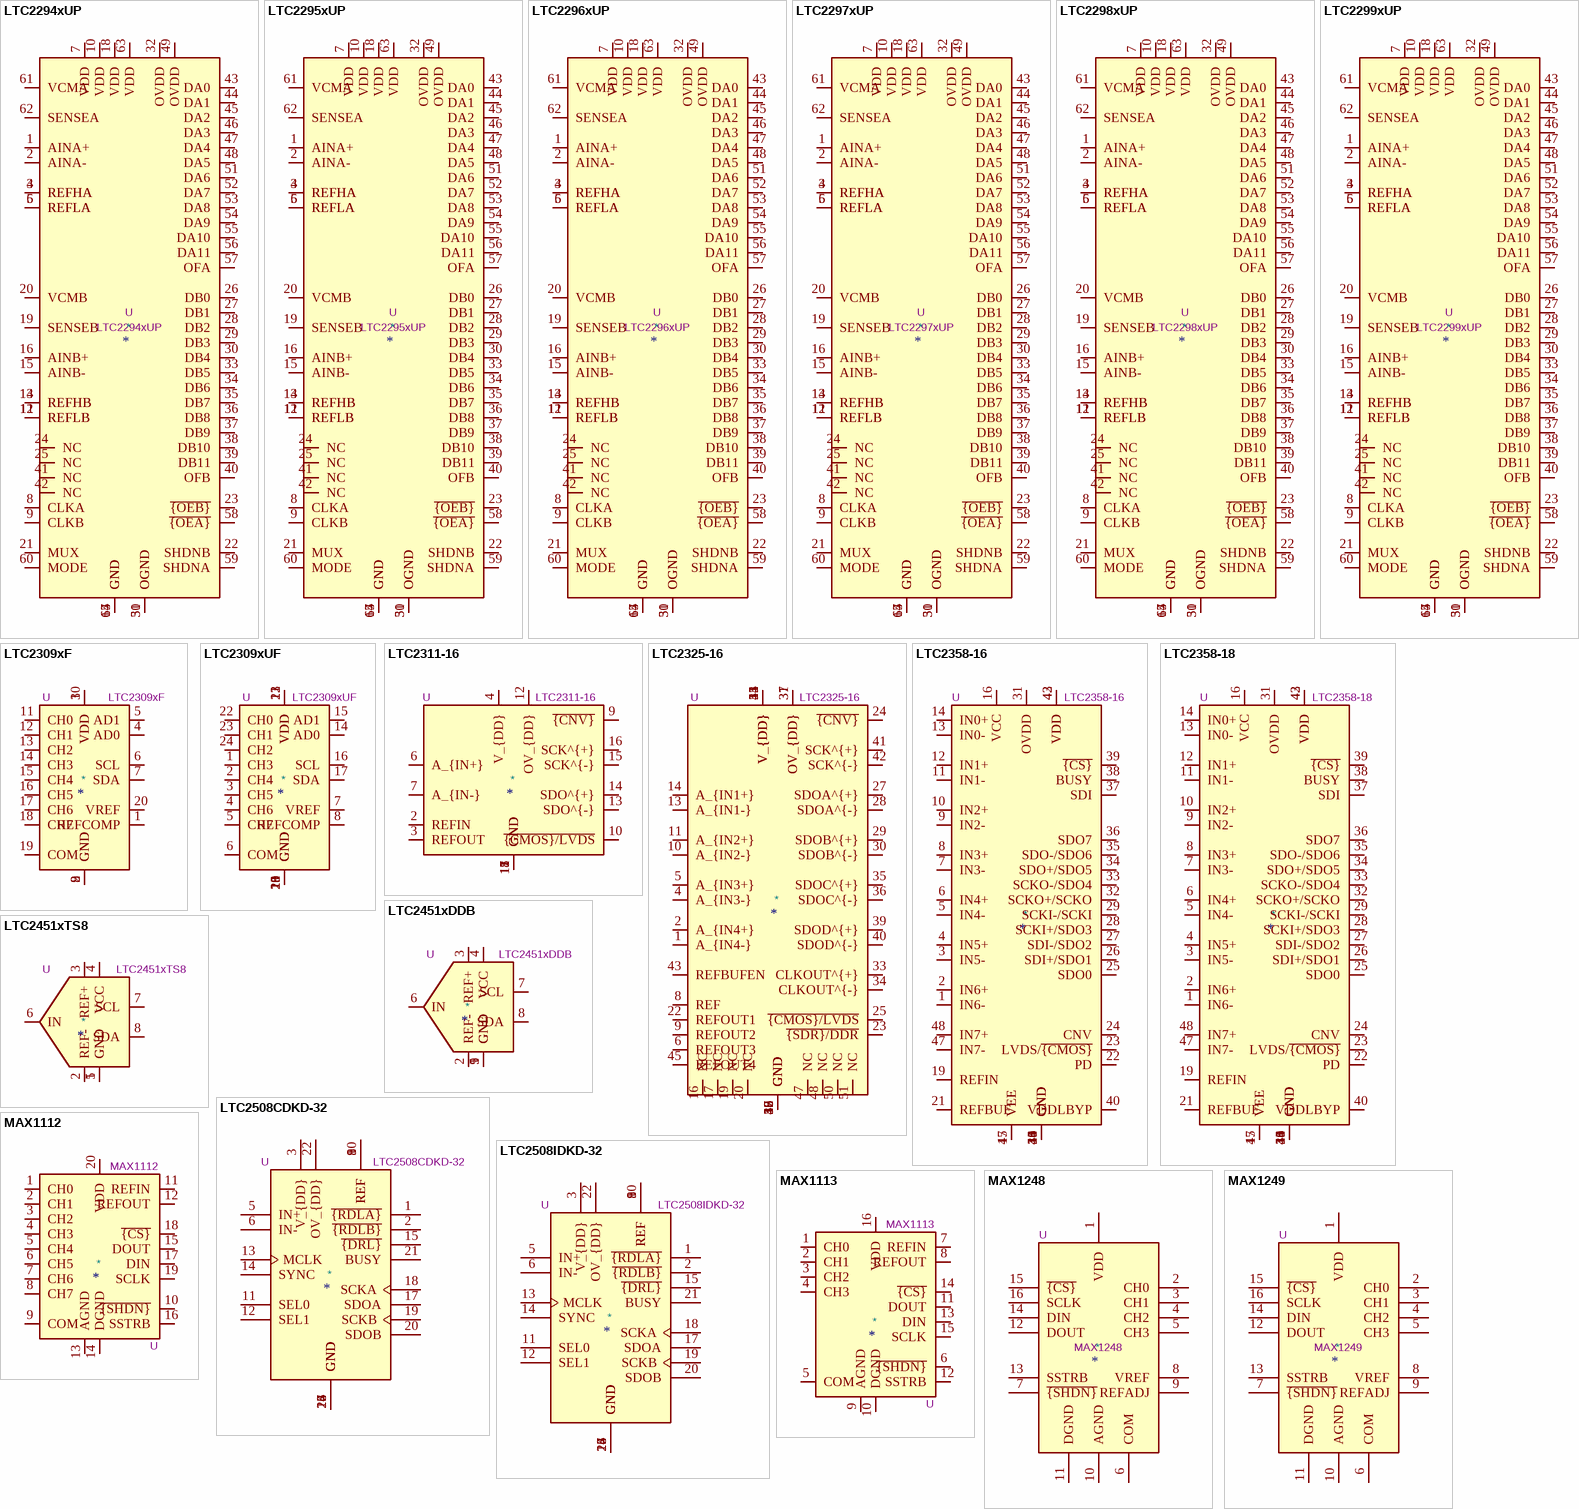
[diagram p5: symbols LTC2294xUP to MAX1249]

## LTC2294xUP
designator *  value LTC2294xUP  Reference: U
Dual-Channel, 12-Bit Low Power ADC, 80Msps, QFN-64; ki_fp_filters: QFN*1EP*9x9mm*P0.5mm*; Footprint: Package_DFN_QFN:QFN-64-1EP_9x9mm_P0.5mm_EP7.15x7.15mm; Datasheet: https://www.analog.com/media/en/technical-documentation/data-sheets/2294fa.pdf; Description_: Dual-Channel, 12-Bit Low Power ADC, 80Msps, QFN-64; ki_keywords: ADC
pins: 1 AINA+, 2 AINA-, 3 REFHA, 4 REFHA, 5 REFLA, 6 REFLA, 7 VDD, 8 CLKA, 9 CLKB, 10 VDD, 11 REFLB, 12 REFLB, 13 REFHB, 14 REFHB, 15 AINB-, 16 AINB+, 17 GND, 18 VDD, 19 SENSEB, 20 VCMB, 21 MUX, 22 SHDNB, 23 ~{{OEB}}, 24 NC, 25 NC, 26 DB0, 27 DB1, 28 DB2, 29 DB3, 30 DB4, 31 OGND, 32 OVDD, 33 DB5, 34 DB6, 35 DB7, 36 DB8, 37 DB9, 38 DB10, 39 DB11, 40 OFB, 41 NC, 42 NC, 43 DA0, 44 DA1, 45 DA2, 46 DA3, 47 DA4, 48 DA5, 49 OVDD, 50 OGND, 51 DA6, 52 DA7, 53 DA8, 54 DA9, 55 DA10, 56 DA11, 57 OFA, 58 ~{{OEA}}, 59 SHDNA, 60 MODE, 61 VCMA, 62 SENSEA, 63 VDD, 64 GND, 65 GND

## LTC2295xUP
designator *  value LTC2295xUP  Reference: U
Dual-Channel, 14-Bit Low Power ADC, 10Msps, QFN-64; ki_fp_filters: QFN*1EP*9x9mm*P0.5mm*; Footprint: Package_DFN_QFN:QFN-64-1EP_9x9mm_P0.5mm_EP7.15x7.15mm; Datasheet: https://www.analog.com/media/en/technical-documentation/data-sheets/2295fa.pdf; Description_: Dual-Channel, 14-Bit Low Power ADC, 10Msps, QFN-64; ki_keywords: ADC
pins: 1 AINA+, 2 AINA-, 3 REFHA, 4 REFHA, 5 REFLA, 6 REFLA, 7 VDD, 8 CLKA, 9 CLKB, 10 VDD, 11 REFLB, 12 REFLB, 13 REFHB, 14 REFHB, 15 AINB-, 16 AINB+, 17 GND, 18 VDD, 19 SENSEB, 20 VCMB, 21 MUX, 22 SHDNB, 23 ~{{OEB}}, 24 NC, 25 NC, 26 DB0, 27 DB1, 28 DB2, 29 DB3, 30 DB4, 31 OGND, 32 OVDD, 33 DB5, 34 DB6, 35 DB7, 36 DB8, 37 DB9, 38 DB10, 39 DB11, 40 OFB, 41 NC, 42 NC, 43 DA0, 44 DA1, 45 DA2, 46 DA3, 47 DA4, 48 DA5, 49 OVDD, 50 OGND, 51 DA6, 52 DA7, 53 DA8, 54 DA9, 55 DA10, 56 DA11, 57 OFA, 58 ~{{OEA}}, 59 SHDNA, 60 MODE, 61 VCMA, 62 SENSEA, 63 VDD, 64 GND, 65 GND

## LTC2296xUP
designator *  value LTC2296xUP  Reference: U
Dual-Channel, 14-Bit Low Power ADC, 25Msps, QFN-64; ki_fp_filters: QFN*1EP*9x9mm*P0.5mm*; Footprint: Package_DFN_QFN:QFN-64-1EP_9x9mm_P0.5mm_EP7.15x7.15mm; Datasheet: https://www.analog.com/media/en/technical-documentation/data-sheets/229876fa.pdf; Description_: Dual-Channel, 14-Bit Low Power ADC, 25Msps, QFN-64; ki_keywords: ADC
pins: 1 AINA+, 2 AINA-, 3 REFHA, 4 REFHA, 5 REFLA, 6 REFLA, 7 VDD, 8 CLKA, 9 CLKB, 10 VDD, 11 REFLB, 12 REFLB, 13 REFHB, 14 REFHB, 15 AINB-, 16 AINB+, 17 GND, 18 VDD, 19 SENSEB, 20 VCMB, 21 MUX, 22 SHDNB, 23 ~{{OEB}}, 24 NC, 25 NC, 26 DB0, 27 DB1, 28 DB2, 29 DB3, 30 DB4, 31 OGND, 32 OVDD, 33 DB5, 34 DB6, 35 DB7, 36 DB8, 37 DB9, 38 DB10, 39 DB11, 40 OFB, 41 NC, 42 NC, 43 DA0, 44 DA1, 45 DA2, 46 DA3, 47 DA4, 48 DA5, 49 OVDD, 50 OGND, 51 DA6, 52 DA7, 53 DA8, 54 DA9, 55 DA10, 56 DA11, 57 OFA, 58 ~{{OEA}}, 59 SHDNA, 60 MODE, 61 VCMA, 62 SENSEA, 63 VDD, 64 GND, 65 GND

## LTC2297xUP
designator *  value LTC2297xUP  Reference: U
Dual-Channel, 14-Bit Low Power ADC, 40Msps, QFN-64; ki_fp_filters: QFN*1EP*9x9mm*P0.5mm*; Footprint: Package_DFN_QFN:QFN-64-1EP_9x9mm_P0.5mm_EP7.15x7.15mm; Datasheet: https://www.analog.com/media/en/technical-documentation/data-sheets/229876fa.pdf; Description_: Dual-Channel, 14-Bit Low Power ADC, 40Msps, QFN-64; ki_keywords: ADC
pins: 1 AINA+, 2 AINA-, 3 REFHA, 4 REFHA, 5 REFLA, 6 REFLA, 7 VDD, 8 CLKA, 9 CLKB, 10 VDD, 11 REFLB, 12 REFLB, 13 REFHB, 14 REFHB, 15 AINB-, 16 AINB+, 17 GND, 18 VDD, 19 SENSEB, 20 VCMB, 21 MUX, 22 SHDNB, 23 ~{{OEB}}, 24 NC, 25 NC, 26 DB0, 27 DB1, 28 DB2, 29 DB3, 30 DB4, 31 OGND, 32 OVDD, 33 DB5, 34 DB6, 35 DB7, 36 DB8, 37 DB9, 38 DB10, 39 DB11, 40 OFB, 41 NC, 42 NC, 43 DA0, 44 DA1, 45 DA2, 46 DA3, 47 DA4, 48 DA5, 49 OVDD, 50 OGND, 51 DA6, 52 DA7, 53 DA8, 54 DA9, 55 DA10, 56 DA11, 57 OFA, 58 ~{{OEA}}, 59 SHDNA, 60 MODE, 61 VCMA, 62 SENSEA, 63 VDD, 64 GND, 65 GND

## LTC2298xUP
designator *  value LTC2298xUP  Reference: U
Dual-Channel, 14-Bit Low Power ADC, 65Msps, QFN-64; ki_fp_filters: QFN*1EP*9x9mm*P0.5mm*; Footprint: Package_DFN_QFN:QFN-64-1EP_9x9mm_P0.5mm_EP7.15x7.15mm; Datasheet: https://www.analog.com/media/en/technical-documentation/data-sheets/229876fa.pdf; Description_: Dual-Channel, 14-Bit Low Power ADC, 65Msps, QFN-64; ki_keywords: ADC
pins: 1 AINA+, 2 AINA-, 3 REFHA, 4 REFHA, 5 REFLA, 6 REFLA, 7 VDD, 8 CLKA, 9 CLKB, 10 VDD, 11 REFLB, 12 REFLB, 13 REFHB, 14 REFHB, 15 AINB-, 16 AINB+, 17 GND, 18 VDD, 19 SENSEB, 20 VCMB, 21 MUX, 22 SHDNB, 23 ~{{OEB}}, 24 NC, 25 NC, 26 DB0, 27 DB1, 28 DB2, 29 DB3, 30 DB4, 31 OGND, 32 OVDD, 33 DB5, 34 DB6, 35 DB7, 36 DB8, 37 DB9, 38 DB10, 39 DB11, 40 OFB, 41 NC, 42 NC, 43 DA0, 44 DA1, 45 DA2, 46 DA3, 47 DA4, 48 DA5, 49 OVDD, 50 OGND, 51 DA6, 52 DA7, 53 DA8, 54 DA9, 55 DA10, 56 DA11, 57 OFA, 58 ~{{OEA}}, 59 SHDNA, 60 MODE, 61 VCMA, 62 SENSEA, 63 VDD, 64 GND, 65 GND

## LTC2299xUP
designator *  value LTC2299xUP  Reference: U
Dual-Channel, 14-Bit Low Power ADC, 80Msps, QFN-64; ki_fp_filters: QFN*1EP*9x9mm*P0.5mm*; Footprint: Package_DFN_QFN:QFN-64-1EP_9x9mm_P0.5mm_EP7.15x7.15mm; Datasheet: https://www.analog.com/media/en/technical-documentation/data-sheets/2299fa.pdf; Description_: Dual-Channel, 14-Bit Low Power ADC, 80Msps, QFN-64; ki_keywords: ADC
pins: 1 AINA+, 2 AINA-, 3 REFHA, 4 REFHA, 5 REFLA, 6 REFLA, 7 VDD, 8 CLKA, 9 CLKB, 10 VDD, 11 REFLB, 12 REFLB, 13 REFHB, 14 REFHB, 15 AINB-, 16 AINB+, 17 GND, 18 VDD, 19 SENSEB, 20 VCMB, 21 MUX, 22 SHDNB, 23 ~{{OEB}}, 24 NC, 25 NC, 26 DB0, 27 DB1, 28 DB2, 29 DB3, 30 DB4, 31 OGND, 32 OVDD, 33 DB5, 34 DB6, 35 DB7, 36 DB8, 37 DB9, 38 DB10, 39 DB11, 40 OFB, 41 NC, 42 NC, 43 DA0, 44 DA1, 45 DA2, 46 DA3, 47 DA4, 48 DA5, 49 OVDD, 50 OGND, 51 DA6, 52 DA7, 53 DA8, 54 DA9, 55 DA10, 56 DA11, 57 OFA, 58 ~{{OEA}}, 59 SHDNA, 60 MODE, 61 VCMA, 62 SENSEA, 63 VDD, 64 GND, 65 GND

## LTC2309xF
designator *  value LTC2309xF  Reference: U
8 Channels, 12-Bit SAR ADC, I2C interface, TSSOP-20 package; ki_keywords: LT ADC 12bit I2C SAR TSSOP; ki_fp_filters: TSSOP*4.4x6.5mm*P0.65mm*; Footprint: Package_SO:TSSOP-20_4.4x6.5mm_P0.65mm; Datasheet: https://www.analog.com/media/en/technical-documentation/data-sheets/2309fd.pdf; Description_: 8 Channels, 12-Bit SAR ADC, I2C interface, TSSOP-20 package
pins: 1 REFCOMP, 2 GND, 3 VDD, 4 AD0, 5 AD1, 6 SCL, 7 SDA, 8 GND, 9 GND, 10 VDD, 11 CH0, 12 CH1, 13 CH2, 14 CH3, 15 CH4, 16 CH5, 17 CH6, 18 CH7, 19 COM, 20 VREF

## LTC2309xUF
designator *  value LTC2309xUF  Reference: U
8 Channels, 12-Bit SAR ADC, I2C interface, QFN-24 package; ki_keywords: LT ADC 12bit I2C SAR QFN; ki_fp_filters: QFN*1EP*4x4mm*0.5mm*; Footprint: Package_DFN_QFN:QFN-24-1EP_4x4mm_P0.5mm_EP2.6x2.6mm; Datasheet: https://www.analog.com/media/en/technical-documentation/data-sheets/2309fd.pdf; Description_: 8 Channels, 12-Bit SAR ADC, I2C interface, QFN-24 package
pins: 1 CH3, 2 CH4, 3 CH5, 4 CH6, 5 CH7, 6 COM, 7 VREF, 8 REFCOMP, 9 GND, 10 GND, 11 GND, 12 VDD, 13 VDD, 14 AD0, 15 AD1, 16 SCL, 17 SDA, 18 GND, 19 GND, 20 GND, 21 VDD, 22 CH0, 23 CH1, 24 CH2, 25 GND

## LTC2311-16
designator *  value LTC2311-16  Reference: U
16-Bit, 5Msps Differential Input ADC with Wide Input Common Mode Range, LVDS/CMOS interface, MSOP-16; ki_keywords: 16-bit adc differential input 5 msps lvds cmos; ki_fp_filters: MSOP*1EP*3x4.039mm*P0.5mm*; Footprint: Package_SO:MSOP-16-1EP_3x4.039mm_P0.5mm_EP1.651x2.845mm; Datasheet: https://www.analog.com/media/en/technical-documentation/data-sheets/231116fa.pdf; Description_: 16-Bit, 5Msps Differential Input ADC with Wide Input Common Mode Range, LVDS/CMOS interface, MSOP-16
pins: 1 GND, 2 REFIN, 3 REFOUT, 4 V_{DD}, 5 GND, 6 A_{IN+}, 7 A_{IN-}, 8 GND, 9 ~{{CNV}}, 10 ~{{CMOS}/LVDS}, 11 GND, 12 OV_{DD}, 13 SDO^{-}, 14 SDO^{+}, 15 SCK^{-}, 16 SCK^{+}, 17 GND

## LTC2325-16
designator *  value LTC2325-16  Reference: U
Quad, 16-Bit, 5Msps/Ch Simultaneous Sampling ADC, LVDS/CMOS interface, QFN-52; ki_keywords: 16-Bit 5msps 4 channel adc lvds cmos; ki_fp_filters: QFN*1EP*P0.5mm*5.41x6.45mm*; Footprint: Package_DFN_QFN:QFN-52-1EP_7x8mm_P0.5mm_EP5.41x6.45mm_ThermalVias; Datasheet: https://www.analog.com/media/en/technical-documentation/data-sheets/232516fa.pdf; Description_: Quad, 16-Bit, 5Msps/Ch Simultaneous Sampling ADC, LVDS/CMOS interface, QFN-52
pins: 1 A_{IN4-}, 2 A_{IN4+}, 3 GND, 4 A_{IN3-}, 5 A_{IN3+}, 6 REFOUT3, 7 GND, 8 REF, 9 REFOUT2, 10 A_{IN2-}, 11 A_{IN2+}, 12 GND, 13 A_{IN1-}, 14 A_{IN1+}, 15 V_{DD}, 16 NC, 17 NC, 18 GND, 19 NC, 20 NC, 21 V_{DD}, 22 REFOUT1, 23 ~{{SDR}/DDR}, 24 ~{{CNV}}, 25 ~{{CMOS}/LVDS}, 26 GND, 27 SDOA^{+}, 28 SDOA^{-}, 29 SDOB^{+}, 30 SDOB^{-}, 31 OV_{DD}, 32 GND, 33 CLKOUT^{+}, 34 CLKOUT^{-}, 35 SDOC^{+}, 36 SDOC^{-}, 37 OV_{DD}, 38 GND, 39 SDOD^{+}, 40 SDOD^{-}, 41 SCK^{+}, 42 SCK^{-}, 43 REFBUFEN, 44 V_{DD}, 45 REFOUT4, 46 GND, 47 NC, 48 NC, 49 GND, 50 NC, 51 NC, 52 V_{DD}, 53 GND

## LTC2358-16
designator *  value LTC2358-16  Reference: U
LTC2358 Buffered Octal, 16 bit, 200ksps/Ch Differential ±10.24V Simultaneous Sampling ADC, 30Vpp common mode range, LQFP-48; ki_keywords: 16bit Simultaneous Sampling ADC 8 Channels SPI buffered; ki_fp_filters: LQFP?48*7x7mm*P0.5mm*; Footprint: Package_QFP:LQFP-48_7x7mm_P0.5mm; Datasheet: https://www.analog.com/media/en/technical-documentation/data-sheets/235816f.pdf; Description_: LTC2358 Buffered Octal, 16 bit, 200ksps/Ch Differential ±10.24V Simultaneous Sampling ADC, 30Vpp common mode range, LQFP-48
pins: 1 IN6-, 2 IN6+, 3 IN5-, 4 IN5+, 5 IN4-, 6 IN4+, 7 IN3-, 8 IN3+, 9 IN2-, 10 IN2+, 11 IN1-, 12 IN1+, 13 IN0-, 14 IN0+, 15 GND, 16 VCC, 17 VEE, 18 GND, 19 REFIN, 20 GND, 21 REFBUF, 22 PD, 23 LVDS/~{{CMOS}}, 24 CNV, 25 SDO0, 26 SDI+/SDO1, 27 SDI-/SDO2, 28 SCKI+/SDO3, 29 SCKI-/SCKI, 30 GND, 31 OVDD, 32 SCKO+/SCKO, 33 SCKO-/SDO4, 34 SDO+/SDO5, 35 SDO-/SDO6, 36 SDO7, 37 SDI, 38 BUSY, 39 ~{{CS}}, 40 VDDLBYP, 41 GND, 42 VDD, 43 VDD, 44 GND, 45 VEE, 46 GND, 47 IN7-, 48 IN7+

## LTC2358-18
designator *  value LTC2358-18  Reference: U
LTC2358 Buffered Octal, 18 bit, 200ksps/Ch Differential ±10.24V Simultaneous Sampling ADC, 30Vpp common mode range, LQFP-48; ki_keywords: 18bit Simultaneous Sampling ADC 8 Channels SPI buffered; ki_fp_filters: LQFP?48*7x7mm*P0.5mm*; Footprint: Package_QFP:LQFP-48_7x7mm_P0.5mm; Datasheet: https://www.analog.com/media/en/technical-documentation/data-sheets/235818f.pdf; Description_: LTC2358 Buffered Octal, 18 bit, 200ksps/Ch Differential ±10.24V Simultaneous Sampling ADC, 30Vpp common mode range, LQFP-48
pins: 1 IN6-, 2 IN6+, 3 IN5-, 4 IN5+, 5 IN4-, 6 IN4+, 7 IN3-, 8 IN3+, 9 IN2-, 10 IN2+, 11 IN1-, 12 IN1+, 13 IN0-, 14 IN0+, 15 GND, 16 VCC, 17 VEE, 18 GND, 19 REFIN, 20 GND, 21 REFBUF, 22 PD, 23 LVDS/~{{CMOS}}, 24 CNV, 25 SDO0, 26 SDI+/SDO1, 27 SDI-/SDO2, 28 SCKI+/SDO3, 29 SCKI-/SCKI, 30 GND, 31 OVDD, 32 SCKO+/SCKO, 33 SCKO-/SDO4, 34 SDO+/SDO5, 35 SDO-/SDO6, 36 SDO7, 37 SDI, 38 BUSY, 39 ~{{CS}}, 40 VDDLBYP, 41 GND, 42 VDD, 43 VDD, 44 GND, 45 VEE, 46 GND, 47 IN7-, 48 IN7+

## LTC2451xDDB
designator *  value LTC2451xDDB  Reference: U
Analog to Digital Converter, Single Channel, 16-Bit, 30/60 SPS, 2.7V to 5.5V, I2C interface, DFN-8; ki_keywords: analog to digital converter adc i2c twi single channel delta sigma 16 bit; ki_fp_filters: DFN*1EP*2x3mm*P0.5mm*; Footprint: Package_DFN_QFN:DFN-8-1EP_2x3mm_P0.5mm_EP0.61x2.2mm; Datasheet: https://www.analog.com/media/en/technical-documentation/data-sheets/2451fg.pdf; Description_: Analog to Digital Converter, Single Channel, 16-Bit, 30/60 SPS, 2.7V to 5.5V, I2C interface, DFN-8
pins: 1 GND, 2 REF-, 3 REF+, 4 VCC, 5 GND, 6 IN, 7 SCL, 8 SDA, 9 GND

## LTC2451xTS8
designator *  value LTC2451xTS8  Reference: U
Analog to Digital Converter, Single Channel, 16-Bit, 30/60 SPS, 2.7V to 5.5V, I2C interface, TSOT-23-6; ki_keywords: analog to digital converter adc i2c twi single channel delta sigma 16 bit; ki_fp_filters: TSOT?23*; Footprint: Package_TO_SOT_SMD:TSOT-23-8; Datasheet: https://www.analog.com/media/en/technical-documentation/data-sheets/2451fg.pdf; Description_: Analog to Digital Converter, Single Channel, 16-Bit, 30/60 SPS, 2.7V to 5.5V, I2C interface, TSOT-23-6
pins: 1 GND, 2 REF-, 3 REF+, 4 VCC, 5 GND, 6 IN, 7 SCL, 8 SDA

## LTC2508CDKD-32
designator *  value LTC2508CDKD-32  Reference: U
32-Bit Oversampling ADC with Configurable Digital Filter, 0°C to 70°C, DFN-24 package; ki_keywords: LT ADC 32bit; ki_fp_filters: DFN*1EP*4x7mm*P0.5mm*; Footprint: Package_DFN_QFN:DFN-24-1EP_4x7mm_P0.5mm_EP2.64x6.44mm; Datasheet: https://www.analog.com/media/en/technical-documentation/data-sheets/250832fc.pdf; Description_: 32-Bit Oversampling ADC with Configurable Digital Filter, 0°C to 70°C, DFN-24 package
pins: 1 ~{{RDLA}}, 2 ~{{RDLB}}, 3 V_{DD}, 4 GND, 5 IN+, 6 IN-, 7 GND, 8 REF, 9 REF, 10 REF, 11 SEL0, 12 SEL1, 13 MCLK, 14 SYNC, 15 ~{{DRL}}, 16 GND, 17 SDOA, 18 SCKA, 19 SCKB, 20 SDOB, 21 BUSY, 22 OV_{DD}, 23 GND, 24 GND, 25 GND

## LTC2508IDKD-32
designator *  value LTC2508IDKD-32  Reference: U
32-Bit Oversampling ADC with Configurable Digital Filter, -40°C to 85°C, DFN-24 package; ki_keywords: LT ADC 32bit; ki_fp_filters: DFN*1EP*4x7mm*P0.5mm*; Footprint: Package_DFN_QFN:DFN-24-1EP_4x7mm_P0.5mm_EP2.64x6.44mm; Datasheet: https://www.analog.com/media/en/technical-documentation/data-sheets/250832fc.pdf; Description_: 32-Bit Oversampling ADC with Configurable Digital Filter, -40°C to 85°C, DFN-24 package
pins: 1 ~{{RDLA}}, 2 ~{{RDLB}}, 3 V_{DD}, 4 GND, 5 IN+, 6 IN-, 7 GND, 8 REF, 9 REF, 10 REF, 11 SEL0, 12 SEL1, 13 MCLK, 14 SYNC, 15 ~{{DRL}}, 16 GND, 17 SDOA, 18 SCKA, 19 SCKB, 20 SDOB, 21 BUSY, 22 OV_{DD}, 23 GND, 24 GND, 25 GND

## MAX1112
designator *  value MAX1112  Reference: U
8-Channel Single-Ended or 4-Channel Differential 8-Bit ADC, SSOP-20; ki_keywords: MAXIM ADC 5V 8-Bit SPI QSPI MICROWIRE; ki_fp_filters: SSOP*5.3x7.2mm*P0.65mm*; Footprint: Package_SO:SSOP-20_5.3x7.2mm_P0.65mm; Datasheet: http://datasheets.maximintegrated.com/en/ds/MAX1112-MAX1113.pdf; Description_: 8-Channel Single-Ended or 4-Channel Differential 8-Bit ADC, SSOP-20
pins: 1 CH0, 2 CH1, 3 CH2, 4 CH3, 5 CH4, 6 CH5, 7 CH6, 8 CH7, 9 COM, 10 ~{{SHDN}}, 11 REFIN, 12 REFOUT, 13 AGND, 14 DGND, 15 DOUT, 16 SSTRB, 17 DIN, 18 ~{{CS}}, 19 SCLK, 20 VDD

## MAX1113
designator *  value MAX1113  Reference: U
4-Channel Single-Ended or 2-Channel Differential 8-Bit ADC, QSOP-16; ki_keywords: MAXIM ADC 5V 8-Bit SPI QSPI MICROWIRE; ki_fp_filters: QSOP*3.9x4.9mm*P0.635mm*; Footprint: Package_SO:QSOP-16_3.9x4.9mm_P0.635mm; Datasheet: http://datasheets.maximintegrated.com/en/ds/MAX1112-MAX1113.pdf; Description_: 4-Channel Single-Ended or 2-Channel Differential 8-Bit ADC, QSOP-16
pins: 1 CH0, 2 CH1, 3 CH2, 4 CH3, 5 COM, 6 ~{{SHDN}}, 7 REFIN, 8 REFOUT, 9 AGND, 10 DGND, 11 DOUT, 12 SSTRB, 13 DIN, 14 ~{{CS}}, 15 SCLK, 16 VDD

## MAX1248
designator *  value MAX1248  Reference: U
4-Channel 10-Bit ADC with Serial Interface, +2.7V to +5.25V, Internal 2.5V Reference, Low-Power; ki_keywords: 10-Bit ADC Internal Reference Serial 4-Channel Maxim; ki_fp_filters: DIP* QSOP*; Datasheet: https://datasheets.maximintegrated.com/en/ds/MAX1248-MAX1249.pdf; Description_: 4-Channel 10-Bit ADC with Serial Interface, +2.7V to +5.25V, Internal 2.5V Reference, Low-Power
pins: 1 VDD, 2 CH0, 3 CH1, 4 CH2, 5 CH3, 6 COM, 7 ~{{SHDN}}, 8 VREF, 9 REFADJ, 10 AGND, 11 DGND, 12 DOUT, 13 SSTRB, 14 DIN, 15 ~{{CS}}, 16 SCLK

## MAX1249
designator *  value MAX1249  Reference: U
4-Channel 10-Bit ADC with Serial Interface, +2.7V to +5.25V, Low-Power; ki_keywords: 10-Bit ADC Serial 4-Channel Maxim; ki_fp_filters: DIP* QSOP*; Datasheet: https://datasheets.maximintegrated.com/en/ds/MAX1248-MAX1249.pdf; Description_: 4-Channel 10-Bit ADC with Serial Interface, +2.7V to +5.25V, Low-Power
pins: 1 VDD, 2 CH0, 3 CH1, 4 CH2, 5 CH3, 6 COM, 7 ~{{SHDN}}, 8 VREF, 9 REFADJ, 10 AGND, 11 DGND, 12 DOUT, 13 SSTRB, 14 DIN, 15 ~{{CS}}, 16 SCLK

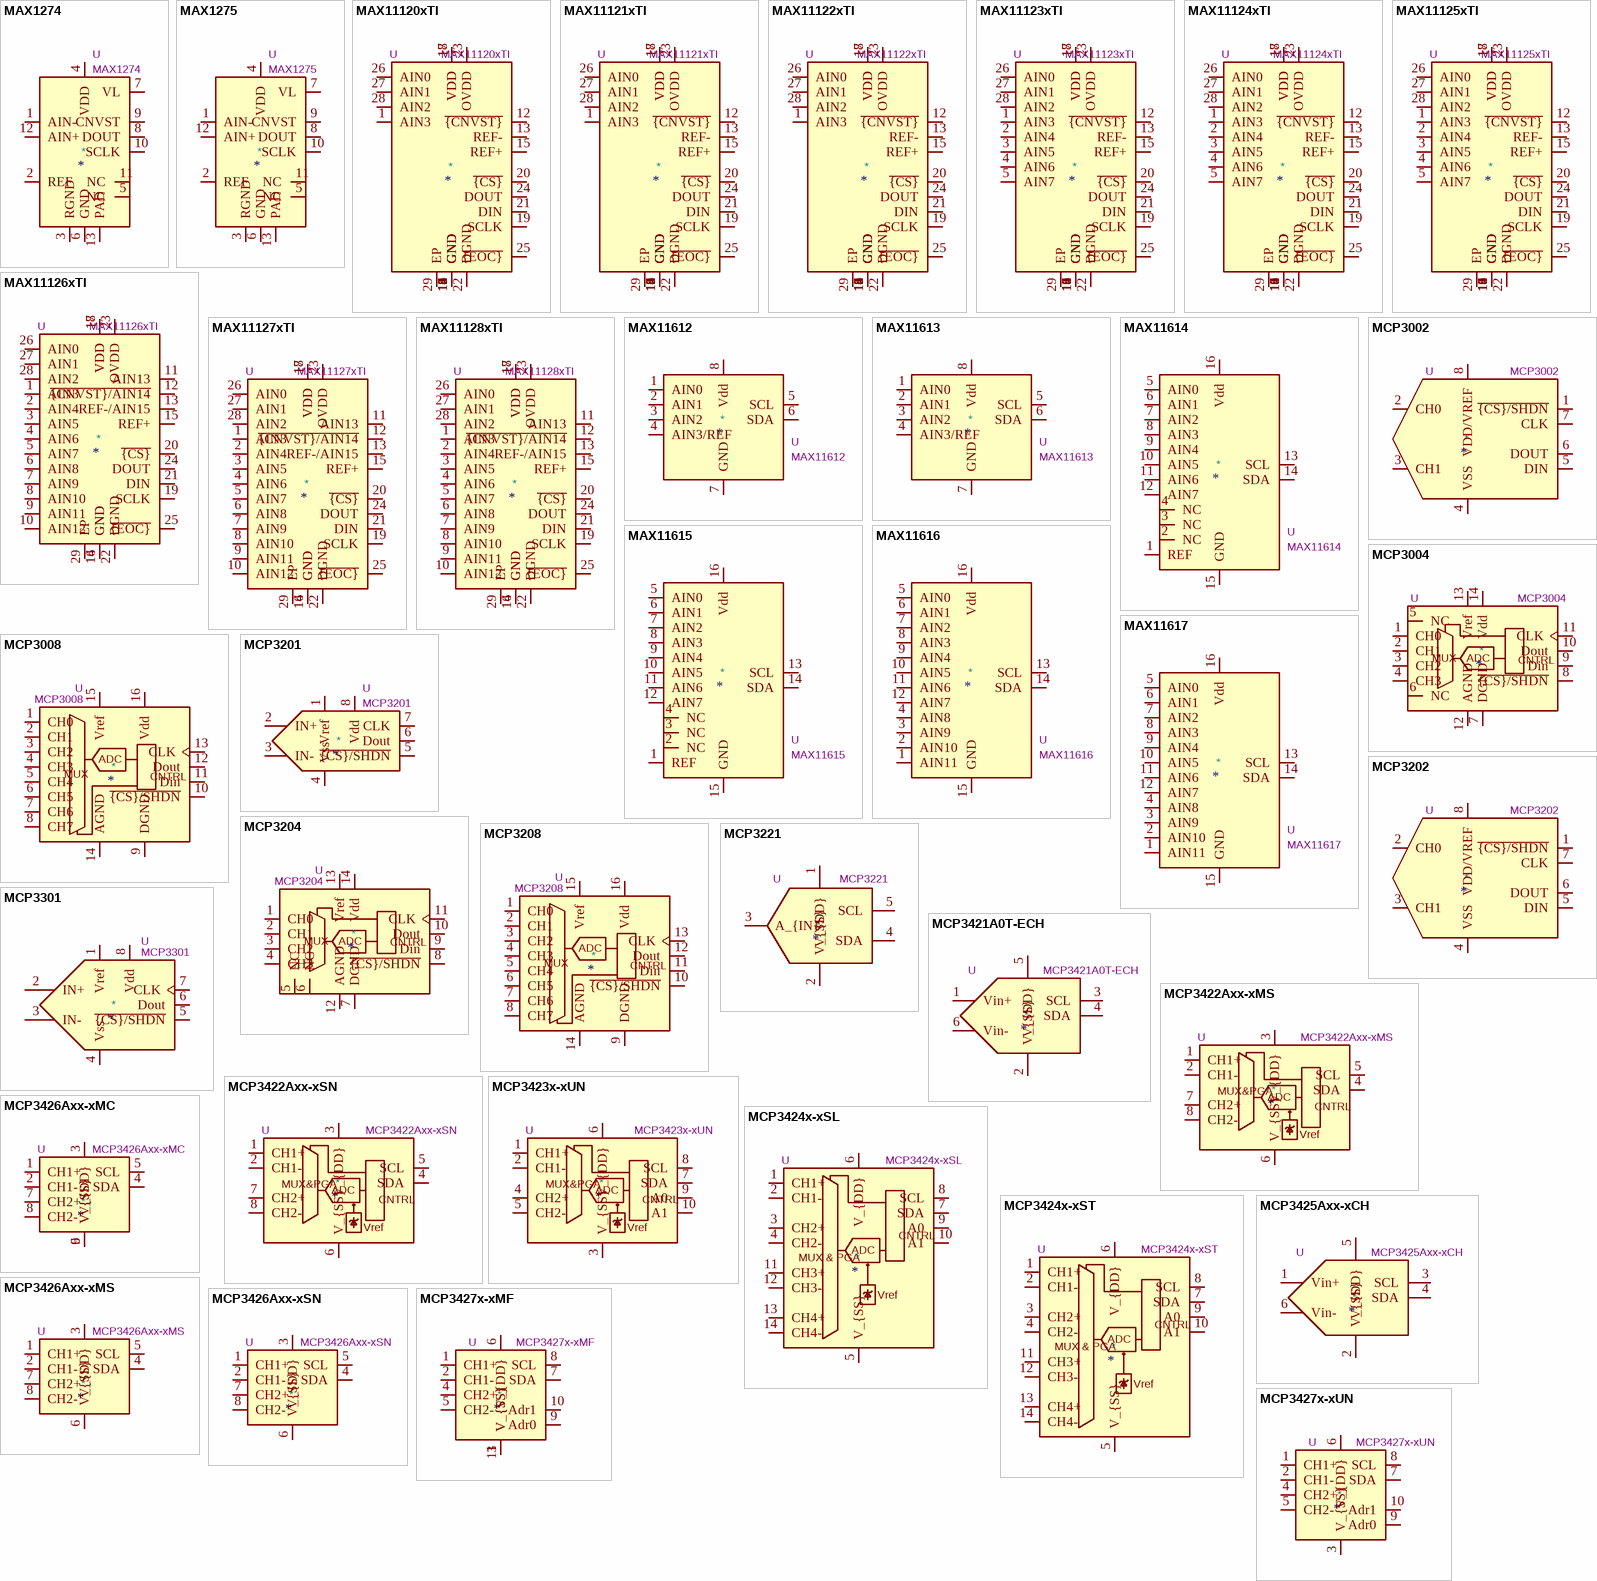
[diagram p6: symbols MAX1274 to MCP3427x-xUN]

## MAX1274
designator *  value MAX1274  Reference: U
1.8Msps, Single-Supply, Low-Power, True-Differential, 12-Bit ADCs, bipolar input; ki_keywords: 12bit ADC 1CH diff differential; ki_fp_filters: *QFN*4x4mm*P0.8mm*; Datasheet: https://datasheets.maximintegrated.com/en/ds/MAX1274-MAX1275.pdf; Description_: 1.8Msps, Single-Supply, Low-Power, True-Differential, 12-Bit ADCs, bipolar input
pins: 1 AIN-, 2 REF, 3 RGND, 4 VDD, 5 NC, 6 GND, 7 VL, 8 DOUT, 9 CNVST, 10 SCLK, 11 NC, 12 AIN+, 13 PAD

## MAX1275
designator *  value MAX1275  Reference: U
1.8Msps, Single-Supply, Low-Power, True-Differential, 12-Bit ADCs, unipolar input; ki_keywords: 12bit ADC 1CH diff differential; ki_fp_filters: *QFN*4x4mm*P0.8mm*; Datasheet: https://datasheets.maximintegrated.com/en/ds/MAX1274-MAX1275.pdf; Description_: 1.8Msps, Single-Supply, Low-Power, True-Differential, 12-Bit ADCs, unipolar input
pins: 1 AIN-, 2 REF, 3 RGND, 4 VDD, 5 NC, 6 GND, 7 VL, 8 DOUT, 9 CNVST, 10 SCLK, 11 NC, 12 AIN+, 13 PAD

## MAX11120xTI
designator *  value MAX11120xTI  Reference: U
4-Channel 8-Bit 1.5MHz Full-Linear Bandwidth External Reference High-Speed Low-Power ADC, QFN-28; ki_keywords: MAXIM ADC 3.3V 8-Bit SPI; ki_fp_filters: *QFN*1EP*5x5mm*P0.5mm*; Footprint: Package_DFN_QFN:TQFN-28-1EP_5x5mm_P0.5mm_EP3.25x3.25mm; Datasheet: https://datasheets.maximintegrated.com/en/ds/MAX11120-MAX11128.pdf; Description_: 4-Channel 8-Bit 1.5MHz Full-Linear Bandwidth External Reference High-Speed Low-Power ADC, QFN-28
pins: 1 AIN3, 2 GND, 3 GND, 4 GND, 5 GND, 6 GND, 7 GND, 8 GND, 9 GND, 10 GND, 11 GND, 12 ~{{CNVST}}, 13 REF-, 14 GND, 15 REF+, 16 GND, 17 VDD, 18 VDD, 19 SCLK, 20 ~{{CS}}, 21 DIN, 22 DGND, 23 OVDD, 24 DOUT, 25 ~{{EOC}}, 26 AIN0, 27 AIN1, 28 AIN2, 29 EP

## MAX11121xTI
designator *  value MAX11121xTI  Reference: U
4-Channel 10-Bit 1.5MHz Full-Linear Bandwidth External Reference High-Speed Low-Power ADC, QFN-28; ki_keywords: MAXIM ADC 3.3V 10-Bit SPI; ki_fp_filters: *QFN*1EP*5x5mm*P0.5mm*; Footprint: Package_DFN_QFN:TQFN-28-1EP_5x5mm_P0.5mm_EP3.25x3.25mm; Datasheet: https://datasheets.maximintegrated.com/en/ds/MAX11120-MAX11128.pdf; Description_: 4-Channel 10-Bit 1.5MHz Full-Linear Bandwidth External Reference High-Speed Low-Power ADC, QFN-28
pins: 1 AIN3, 2 GND, 3 GND, 4 GND, 5 GND, 6 GND, 7 GND, 8 GND, 9 GND, 10 GND, 11 GND, 12 ~{{CNVST}}, 13 REF-, 14 GND, 15 REF+, 16 GND, 17 VDD, 18 VDD, 19 SCLK, 20 ~{{CS}}, 21 DIN, 22 DGND, 23 OVDD, 24 DOUT, 25 ~{{EOC}}, 26 AIN0, 27 AIN1, 28 AIN2, 29 EP

## MAX11122xTI
designator *  value MAX11122xTI  Reference: U
4-Channel 12-Bit 1.5MHz Full-Linear Bandwidth External Reference High-Speed Low-Power ADC, QFN-28; ki_keywords: MAXIM ADC 3.3V 12-Bit SPI; ki_fp_filters: *QFN*1EP*5x5mm*P0.5mm*; Footprint: Package_DFN_QFN:TQFN-28-1EP_5x5mm_P0.5mm_EP3.25x3.25mm; Datasheet: https://datasheets.maximintegrated.com/en/ds/MAX11120-MAX11128.pdf; Description_: 4-Channel 12-Bit 1.5MHz Full-Linear Bandwidth External Reference High-Speed Low-Power ADC, QFN-28
pins: 1 AIN3, 2 GND, 3 GND, 4 GND, 5 GND, 6 GND, 7 GND, 8 GND, 9 GND, 10 GND, 11 GND, 12 ~{{CNVST}}, 13 REF-, 14 GND, 15 REF+, 16 GND, 17 VDD, 18 VDD, 19 SCLK, 20 ~{{CS}}, 21 DIN, 22 DGND, 23 OVDD, 24 DOUT, 25 ~{{EOC}}, 26 AIN0, 27 AIN1, 28 AIN2, 29 EP

## MAX11123xTI
designator *  value MAX11123xTI  Reference: U
8-Channel 8-Bit 1.5MHz Full-Linear Bandwidth External Reference High-Speed Low-Power ADC, QFN-28; ki_keywords: MAXIM ADC 3.3V 8-Bit SPI; ki_fp_filters: *QFN*1EP*5x5mm*P0.5mm*; Footprint: Package_DFN_QFN:TQFN-28-1EP_5x5mm_P0.5mm_EP3.25x3.25mm; Datasheet: https://datasheets.maximintegrated.com/en/ds/MAX11120-MAX11128.pdf; Description_: 8-Channel 8-Bit 1.5MHz Full-Linear Bandwidth External Reference High-Speed Low-Power ADC, QFN-28
pins: 1 AIN3, 2 AIN4, 3 AIN5, 4 AIN6, 5 AIN7, 6 GND, 7 GND, 8 GND, 9 GND, 10 GND, 11 GND, 12 ~{{CNVST}}, 13 REF-, 14 GND, 15 REF+, 16 GND, 17 VDD, 18 VDD, 19 SCLK, 20 ~{{CS}}, 21 DIN, 22 DGND, 23 OVDD, 24 DOUT, 25 ~{{EOC}}, 26 AIN0, 27 AIN1, 28 AIN2, 29 EP

## MAX11124xTI
designator *  value MAX11124xTI  Reference: U
8-Channel 10-Bit 1.5MHz Full-Linear Bandwidth External Reference High-Speed Low-Power ADC, QFN-28; ki_keywords: MAXIM ADC 3.3V 10-Bit SPI; ki_fp_filters: *QFN*1EP*5x5mm*P0.5mm*; Footprint: Package_DFN_QFN:TQFN-28-1EP_5x5mm_P0.5mm_EP3.25x3.25mm; Datasheet: https://datasheets.maximintegrated.com/en/ds/MAX11120-MAX11128.pdf; Description_: 8-Channel 10-Bit 1.5MHz Full-Linear Bandwidth External Reference High-Speed Low-Power ADC, QFN-28
pins: 1 AIN3, 2 AIN4, 3 AIN5, 4 AIN6, 5 AIN7, 6 GND, 7 GND, 8 GND, 9 GND, 10 GND, 11 GND, 12 ~{{CNVST}}, 13 REF-, 14 GND, 15 REF+, 16 GND, 17 VDD, 18 VDD, 19 SCLK, 20 ~{{CS}}, 21 DIN, 22 DGND, 23 OVDD, 24 DOUT, 25 ~{{EOC}}, 26 AIN0, 27 AIN1, 28 AIN2, 29 EP

## MAX11125xTI
designator *  value MAX11125xTI  Reference: U
8-Channel 12-Bit 1.5MHz Full-Linear Bandwidth External Reference High-Speed Low-Power ADC, QFN-28; ki_keywords: MAXIM ADC 3.3V 12-Bit SPI; ki_fp_filters: *QFN*1EP*5x5mm*P0.5mm*; Footprint: Package_DFN_QFN:TQFN-28-1EP_5x5mm_P0.5mm_EP3.25x3.25mm; Datasheet: https://datasheets.maximintegrated.com/en/ds/MAX11120-MAX11128.pdf; Description_: 8-Channel 12-Bit 1.5MHz Full-Linear Bandwidth External Reference High-Speed Low-Power ADC, QFN-28
pins: 1 AIN3, 2 AIN4, 3 AIN5, 4 AIN6, 5 AIN7, 6 GND, 7 GND, 8 GND, 9 GND, 10 GND, 11 GND, 12 ~{{CNVST}}, 13 REF-, 14 GND, 15 REF+, 16 GND, 17 VDD, 18 VDD, 19 SCLK, 20 ~{{CS}}, 21 DIN, 22 DGND, 23 OVDD, 24 DOUT, 25 ~{{EOC}}, 26 AIN0, 27 AIN1, 28 AIN2, 29 EP

## MAX11126xTI
designator *  value MAX11126xTI  Reference: U
16-Channel 8-Bit 1.5MHz Full-Linear Bandwidth External Reference High-Speed Low-Power ADC, QFN-28; ki_keywords: MAXIM ADC 3.3V 8-Bit SPI; ki_fp_filters: *QFN*1EP*5x5mm*P0.5mm*; Footprint: Package_DFN_QFN:TQFN-28-1EP_5x5mm_P0.5mm_EP3.25x3.25mm; Datasheet: https://datasheets.maximintegrated.com/en/ds/MAX11120-MAX11128.pdf; Description_: 16-Channel 8-Bit 1.5MHz Full-Linear Bandwidth External Reference High-Speed Low-Power ADC, QFN-28
pins: 1 AIN3, 2 AIN4, 3 AIN5, 4 AIN6, 5 AIN7, 6 AIN8, 7 AIN9, 8 AIN10, 9 AIN11, 10 AIN12, 11 AIN13, 12 ~{{CNVST}/AIN14}, 13 REF-/AIN15, 14 GND, 15 REF+, 16 GND, 17 VDD, 18 VDD, 19 SCLK, 20 ~{{CS}}, 21 DIN, 22 DGND, 23 OVDD, 24 DOUT, 25 ~{{EOC}}, 26 AIN0, 27 AIN1, 28 AIN2, 29 EP

## MAX11127xTI
designator *  value MAX11127xTI  Reference: U
16-Channel 10-Bit 1.5MHz Full-Linear Bandwidth External Reference High-Speed Low-Power ADC, QFN-28; ki_keywords: MAXIM ADC 3.3V 10-Bit SPI; ki_fp_filters: *QFN*1EP*5x5mm*P0.5mm*; Footprint: Package_DFN_QFN:TQFN-28-1EP_5x5mm_P0.5mm_EP3.25x3.25mm; Datasheet: https://datasheets.maximintegrated.com/en/ds/MAX11120-MAX11128.pdf; Description_: 16-Channel 10-Bit 1.5MHz Full-Linear Bandwidth External Reference High-Speed Low-Power ADC, QFN-28
pins: 1 AIN3, 2 AIN4, 3 AIN5, 4 AIN6, 5 AIN7, 6 AIN8, 7 AIN9, 8 AIN10, 9 AIN11, 10 AIN12, 11 AIN13, 12 ~{{CNVST}/AIN14}, 13 REF-/AIN15, 14 GND, 15 REF+, 16 GND, 17 VDD, 18 VDD, 19 SCLK, 20 ~{{CS}}, 21 DIN, 22 DGND, 23 OVDD, 24 DOUT, 25 ~{{EOC}}, 26 AIN0, 27 AIN1, 28 AIN2, 29 EP

## MAX11128xTI
designator *  value MAX11128xTI  Reference: U
16-Channel 12-Bit 1.5MHz Full-Linear Bandwidth External Reference High-Speed Low-Power ADC, QFN-28; ki_keywords: MAXIM ADC 3.3V 12-Bit SPI; ki_fp_filters: *QFN*1EP*5x5mm*P0.5mm*; Footprint: Package_DFN_QFN:TQFN-28-1EP_5x5mm_P0.5mm_EP3.25x3.25mm; Datasheet: https://datasheets.maximintegrated.com/en/ds/MAX11120-MAX11128.pdf; Description_: 16-Channel 12-Bit 1.5MHz Full-Linear Bandwidth External Reference High-Speed Low-Power ADC, QFN-28
pins: 1 AIN3, 2 AIN4, 3 AIN5, 4 AIN6, 5 AIN7, 6 AIN8, 7 AIN9, 8 AIN10, 9 AIN11, 10 AIN12, 11 AIN13, 12 ~{{CNVST}/AIN14}, 13 REF-/AIN15, 14 GND, 15 REF+, 16 GND, 17 VDD, 18 VDD, 19 SCLK, 20 ~{{CS}}, 21 DIN, 22 DGND, 23 OVDD, 24 DOUT, 25 ~{{EOC}}, 26 AIN0, 27 AIN1, 28 AIN2, 29 EP

## MAX11612
designator *  value MAX11612  Reference: U
4-channel single-ended or 2-channel, differential, 12-bit ADC, I2C, 4.096V internal reference, 8-MSOP package; ki_keywords: adc i2c 4ch; ki_fp_filters: MSOP*3x3mm*P0.65mm*; Footprint: Package_SO:MSOP-8_3x3mm_P0.65mm; Datasheet: https://datasheets.maximintegrated.com/en/ds/MAX11612-MAX11617.pdf; Description_: 4-channel single-ended or 2-channel, differential, 12-bit ADC, I2C, 4.096V internal reference, 8-MSOP package
pins: 1 AIN0, 2 AIN1, 3 AIN2, 4 AIN3/REF, 5 SCL, 6 SDA, 7 GND, 8 Vdd

## MAX11613
designator *  value MAX11613  Reference: U
4-channel single-ended or 2-channel, differential, 12-bit ADC, I2C, 2.048V internal reference, 8-MSOP package; ki_keywords: adc i2c 4ch; ki_fp_filters: MSOP*3x3mm*P0.65mm*; Footprint: Package_SO:MSOP-8_3x3mm_P0.65mm; Datasheet: https://datasheets.maximintegrated.com/en/ds/MAX11612-MAX11617.pdf; Description_: 4-channel single-ended or 2-channel, differential, 12-bit ADC, I2C, 2.048V internal reference, 8-MSOP package
pins: 1 AIN0, 2 AIN1, 3 AIN2, 4 AIN3/REF, 5 SCL, 6 SDA, 7 GND, 8 Vdd

## MAX11614
designator *  value MAX11614  Reference: U
8-channel single-ended or 4-channel, differential, 12-bit ADC, I2C, 4.096V internal reference, 16-QSOP package; ki_keywords: adc i2c 8ch; ki_fp_filters: QSOP*3.9x4.9mm*P0.635mm*; Footprint: Package_SO:QSOP-16_3.9x4.9mm_P0.635mm; Datasheet: https://datasheets.maximintegrated.com/en/ds/MAX11612-MAX11617.pdf; Description_: 8-channel single-ended or 4-channel, differential, 12-bit ADC, I2C, 4.096V internal reference, 16-QSOP package
pins: 1 REF, 2 NC, 3 NC, 4 NC, 5 AIN0, 6 AIN1, 7 AIN2, 8 AIN3, 9 AIN4, 10 AIN5, 11 AIN6, 12 AIN7, 13 SCL, 14 SDA, 15 GND, 16 Vdd

## MAX11615
designator *  value MAX11615  Reference: U
8-channel single-ended or 4-channel, differential, 12-bit ADC, I2C, 2.048V internal reference, 16-QSOP package; ki_keywords: adc i2c 8ch; ki_fp_filters: QSOP*3.9x4.9mm*P0.635mm*; Footprint: Package_SO:QSOP-16_3.9x4.9mm_P0.635mm; Datasheet: https://datasheets.maximintegrated.com/en/ds/MAX11612-MAX11617.pdf; Description_: 8-channel single-ended or 4-channel, differential, 12-bit ADC, I2C, 2.048V internal reference, 16-QSOP package
pins: 1 REF, 2 NC, 3 NC, 4 NC, 5 AIN0, 6 AIN1, 7 AIN2, 8 AIN3, 9 AIN4, 10 AIN5, 11 AIN6, 12 AIN7, 13 SCL, 14 SDA, 15 GND, 16 Vdd

## MAX11616
designator *  value MAX11616  Reference: U
12-channel single-ended or 6-channel, differential, 12-bit ADC, I2C, 4.096V internal reference, 16-QSOP package; ki_keywords: adc i2c 12ch; ki_fp_filters: QSOP*3.9x4.9mm*P0.635mm*; Footprint: Package_SO:QSOP-16_3.9x4.9mm_P0.635mm; Datasheet: https://datasheets.maximintegrated.com/en/ds/MAX11612-MAX11617.pdf; Description_: 12-channel single-ended or 6-channel, differential, 12-bit ADC, I2C, 4.096V internal reference, 16-QSOP package
pins: 1 AIN11, 2 AIN10, 3 AIN9, 4 AIN8, 5 AIN0, 6 AIN1, 7 AIN2, 8 AIN3, 9 AIN4, 10 AIN5, 11 AIN6, 12 AIN7, 13 SCL, 14 SDA, 15 GND, 16 Vdd

## MAX11617
designator *  value MAX11617  Reference: U
12-channel single-ended or 6-channel, differential, 12-bit ADC, I2C, 2.048V internal reference, 16-QSOP package; ki_keywords: adc i2c 12ch; ki_fp_filters: QSOP*3.9x4.9mm*P0.635mm*; Footprint: Package_SO:QSOP-16_3.9x4.9mm_P0.635mm; Datasheet: https://datasheets.maximintegrated.com/en/ds/MAX11612-MAX11617.pdf; Description_: 12-channel single-ended or 6-channel, differential, 12-bit ADC, I2C, 2.048V internal reference, 16-QSOP package
pins: 1 AIN11, 2 AIN10, 3 AIN9, 4 AIN8, 5 AIN0, 6 AIN1, 7 AIN2, 8 AIN3, 9 AIN4, 10 AIN5, 11 AIN6, 12 AIN7, 13 SCL, 14 SDA, 15 GND, 16 Vdd

## MCP3002
designator *  value MCP3002  Reference: U
Dual Channel 10-Bit A/D Converter with SPI Serial Interface; ki_keywords: Dual Channel 10-Bit ADC SPI 2CH; ki_fp_filters: DIP*W7.62mm** SOIC*3.9x4.9mm*P1.27mm* TSSOP*3x3mm*P0.65mm* MSOP*3x3mm*P0.65mm*; Datasheet: http://ww1.microchip.com/downloads/en/DeviceDoc/21294E.pdf; Description_: Dual Channel 10-Bit A/D Converter with SPI Serial Interface
pins: 1 ~{{CS}/SHDN}, 2 CH0, 3 CH1, 4 VSS, 5 DIN, 6 DOUT, 7 CLK, 8 VDD/VREF

## MCP3004
designator *  value MCP3004  Reference: U
4-Channel 10-Bit A/D Converters with SPI Interface; ki_keywords: 10-Bit ADC SPI 4CH; ki_fp_filters: DIP*W7.62mm* SOIC*3.9x8.7mm*P1.27mm* TSSOP*4.4x5mm*P0.65mm*; Datasheet: http://ww1.microchip.com/downloads/en/DeviceDoc/21295C.pdf; Description_: 4-Channel 10-Bit A/D Converters with SPI Interface
pins: 1 CH0, 2 CH1, 3 CH2, 4 CH3, 5 NC, 6 NC, 7 DGND, 8 ~{{CS}/SHDN}, 9 Din, 10 Dout, 11 CLK, 12 AGND, 13 Vref, 14 Vdd
text: MUX; ADC; CNTRL

## MCP3008
designator *  value MCP3008  Reference: U
A/D Converter, 10-Bit, 8-Channel, SPI Interface , 2.7V-5.5V; ki_keywords: 12bit ADC Reference Single Supply SPI 8CH; ki_fp_filters: DIP*W7.62mm* SOIC*3.9x9.9mm*P1.27mm*; Datasheet: http://ww1.microchip.com/downloads/en/DeviceDoc/21295d.pdf; Description_: A/D Converter, 10-Bit, 8-Channel, SPI Interface , 2.7V-5.5V
pins: 1 CH0, 2 CH1, 3 CH2, 4 CH3, 5 CH4, 6 CH5, 7 CH6, 8 CH7, 9 DGND, 10 ~{{CS}/SHDN}, 11 Din, 12 Dout, 13 CLK, 14 AGND, 15 Vref, 16 Vdd
text: ADC; MUX; CNTRL

## MCP3201
designator *  value MCP3201  Reference: U
2.7V 12-Bit A/D Converter with SPI™ Serial Interface, PDIP-8/SOIC-8/MSOP-8/TSSOP-8; ki_keywords: 12-Bit Differential ADC SPI 1ch; ki_fp_filters: SOIC*3.9x4.9mm*P1.27mm* DIP*W7.62mm* TSSOP*4.4x3mm*P0.65mm* MSOP*3x3mm*P0.65mm*; Datasheet: http://ww1.microchip.com/downloads/en/DeviceDoc/21290D.pdf; Description_: 2.7V 12-Bit A/D Converter with SPI™ Serial Interface, PDIP-8/SOIC-8/MSOP-8/TSSOP-8
pins: 1 Vref, 2 IN+, 3 IN-, 4 Vss, 5 ~{{CS}/SHDN}, 6 Dout, 7 CLK, 8 Vdd